# Altium integrated library Renesas Microcontroller R32C.IntLib: 205 symbols (part 1 of 22)
Pins are listed as number, name and electrical type; pins without a type are passive.

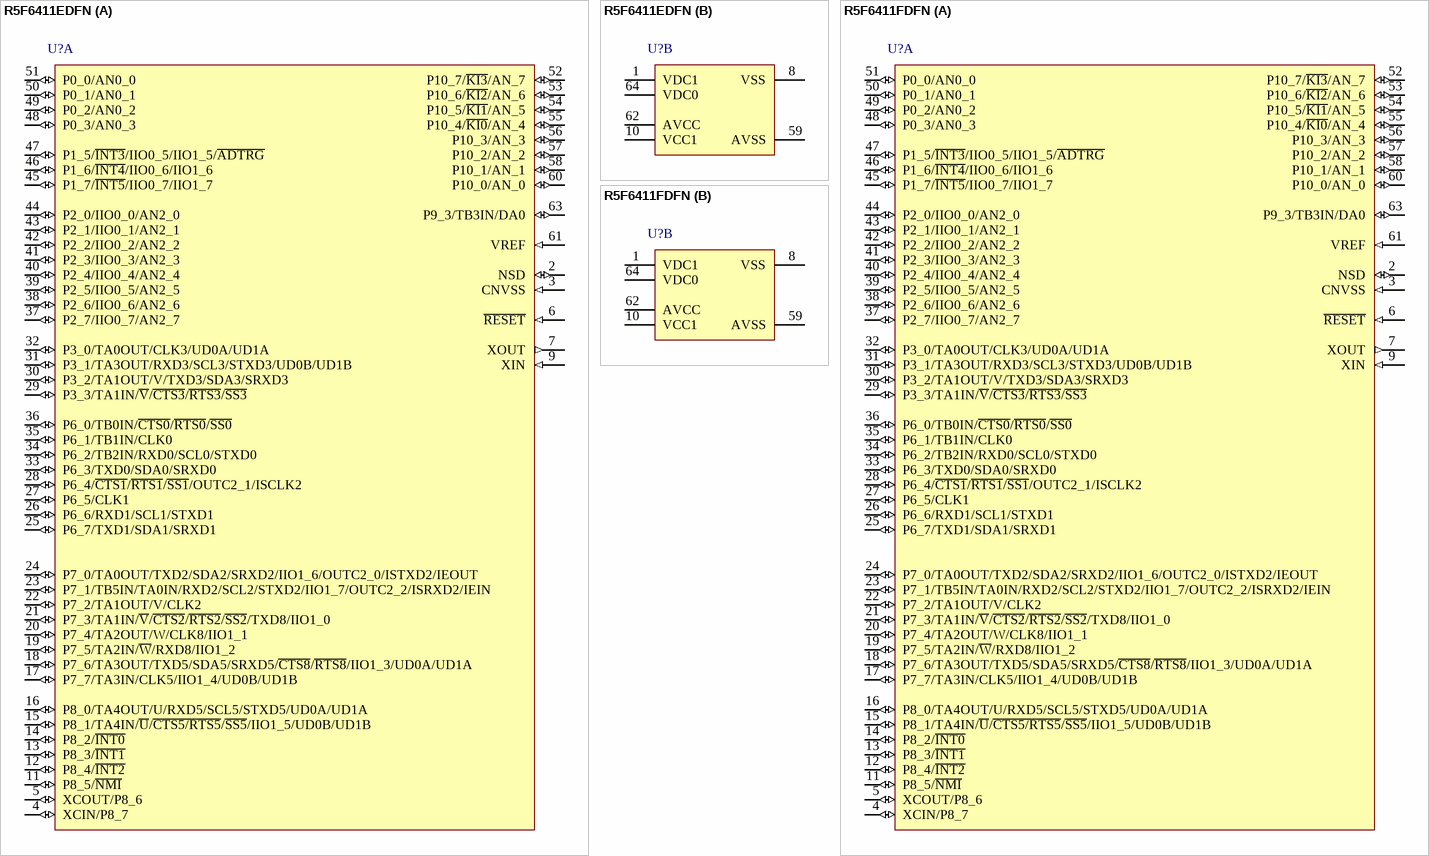
[diagram p0: symbols R5F6411EDFN to R5F6411FDFN]

## R5F6411EDFN
designator U?
Flash Memory R32C/100 Series, 111 Group MCU, 128K + 8K ROM, 32K RAM, 64-pin QFP, -40 to +85°C, Version D; Published: 26-Feb-2010; DatasheetVersion: Rev.1.10, Sep-2009; PackageVersion: Sep-2005; PackageReference: PLQP0064KB-A; Publisher: Altium Limited; PackageDescription: 64-Pin Plastic Low Profile QFP, 10 x 10 x 1.4 mm Body, 0.5 mm Pitch; Code_JEITA: P-LQFP64-10x10-0.50; Code_IPC: SQFP50P1200X1200-64; ComponentLink1Description: Manufacturer Link; ComponentLink1URL: http://sg.renesas.com/fmwk.jsp?cnt=m16c_family_landing.jsp&fp=/products/mpumcu/m16c_family/; ComponentLink2Description: Datasheet; ComponentLink2URL: http://documentation.renesas.com/eng/products/mpumcu/rej03b0227_r32c111ds.pdf; ComponentLink3Description: Packaging Specification; ComponentLink3URL: http://sg.renesas.com/media/products/common_info/package/pdf/ic/code/plqp0064kb_a.pdf
footprint PLQP0064KB-A_N (Shrink QFP, 64-Leads, Body 10x10mm, Pitch 0.5mm, IPC Medium Density)
footprint PLQP0064KB-A_L (Shrink QFP, 64-Leads, Body 10x10mm, Pitch 0.5mm, IPC High Density)
footprint PLQP0064KB-A_M (Shrink QFP, 64-Leads, Body 10x10mm, Pitch 0.5mm, IPC Low Density)
part A pins: 2 NSD (io), 3 CNVSS (in), 4 XCIN/P8_7 (io), 5 XCOUT/P8_6 (io), 6 ~{RESET} (in), 7 XOUT (out), 9 XIN (in), 11 P8_5/~{NMI} (io), 12 P8_4/~{INT2} (io), 13 P8_3/~{INT1} (io), 14 P8_2/~{INT0} (io), 15 P8_1/TA4IN/~{U}/~{CTS5/RTS5}/~{SS5}/IIO1_5/UD0B/UD1B (io), 16 P8_0/TA4OUT/U/RXD5/SCL5/STXD5/UD0A/UD1A (io), 17 P7_7/TA3IN/CLK5/IIO1_4/UD0B/UD1B (io), 18 P7_6/TA3OUT/TXD5/SDA5/SRXD5/~{CTS8}/~{RTS8}/IIO1_3/UD0A/UD1A (io), 19 P7_5/TA2IN/~{W}/RXD8/IIO1_2 (io), 20 P7_4/TA2OUT/W/CLK8/IIO1_1 (io), 21 P7_3/TA1IN/~{V}/~{CTS2}/~{RTS2}/~{SS2}/TXD8/IIO1_0 (io), 22 P7_2/TA1OUT/V/CLK2 (io), 23 P7_1/TB5IN/TA0IN/RXD2/SCL2/STXD2/IIO1_7/OUTC2_2/ISRXD2/IEIN (io), 24 P7_0/TA0OUT/TXD2/SDA2/SRXD2/IIO1_6/OUTC2_0/ISTXD2/IEOUT (io), 25 P6_7/TXD1/SDA1/SRXD1 (io), 26 P6_6/RXD1/SCL1/STXD1 (io), 27 P6_5/CLK1 (io), 28 P6_4/~{CTS1}/~{RTS1}/~{SS1}/OUTC2_1/ISCLK2 (io), 29 P3_3/TA1IN/~{V}/~{CTS3}/~{RTS3}/~{SS3} (io), 30 P3_2/TA1OUT/V/TXD3/SDA3/SRXD3 (io), 31 P3_1/TA3OUT/RXD3/SCL3/STXD3/UD0B/UD1B (io), 32 P3_0/TA0OUT/CLK3/UD0A/UD1A (io), 33 P6_3/TXD0/SDA0/SRXD0 (io), 34 P6_2/TB2IN/RXD0/SCL0/STXD0 (io), 35 P6_1/TB1IN/CLK0 (io), 36 P6_0/TB0IN/~{CTS0}/~{RTS0}/~{SS0} (io), 37 P2_7/IIO0_7/AN2_7 (io), 38 P2_6/IIO0_6/AN2_6 (io), 39 P2_5/IIO0_5/AN2_5 (io), 40 P2_4/IIO0_4/AN2_4 (io), 41 P2_3/IIO0_3/AN2_3 (io), 42 P2_2/IIO0_2/AN2_2 (io), 43 P2_1/IIO0_1/AN2_1 (io), 44 P2_0/IIO0_0/AN2_0 (io), 45 P1_7/~{INT5}/IIO0_7/IIO1_7 (io), 46 P1_6/~{INT4}/IIO0_6/IIO1_6 (io), 47 P1_5/~{INT3}/IIO0_5/IIO1_5/~{ADTRG} (io), 48 P0_3/AN0_3 (io), 49 P0_2/AN0_2 (io), 50 P0_1/AN0_1 (io), 51 P0_0/AN0_0 (io), 52 P10_7/~{KI3}/AN_7 (io), 53 P10_6/~{KI2}/AN_6 (io), 54 P10_5/~{KI1}/AN_5 (io), 55 P10_4/~{KI0}/AN_4 (io), 56 P10_3/AN_3 (io), 57 P10_2/AN_2 (io), 58 P10_1/AN_1 (io), 60 P10_0/AN_0 (io), 61 VREF (in), 63 P9_3/TB3IN/DA0 (io)
part B pins: 1 VDC1 (power), 8 VSS (power), 10 VCC1 (power), 59 AVSS (power), 62 AVCC (power), 64 VDC0 (power)

## R5F6411FDFN
designator U?
Flash Memory R32C/100 Series, 111 Group MCU, 256K + 8K ROM, 32K RAM, 64-pin QFP, -40 to +85°C, Version D; Published: 26-Feb-2010; DatasheetVersion: Rev.1.10, Sep-2009; PackageVersion: Sep-2005; PackageReference: PLQP0064KB-A; Publisher: Altium Limited; PackageDescription: 64-Pin Plastic Low Profile QFP, 10 x 10 x 1.4 mm Body, 0.5 mm Pitch; Code_JEITA: P-LQFP64-10x10-0.50; Code_IPC: SQFP50P1200X1200-64; ComponentLink1Description: Manufacturer Link; ComponentLink1URL: http://sg.renesas.com/fmwk.jsp?cnt=m16c_family_landing.jsp&fp=/products/mpumcu/m16c_family/; ComponentLink2Description: Datasheet; ComponentLink2URL: http://documentation.renesas.com/eng/products/mpumcu/rej03b0227_r32c111ds.pdf; ComponentLink3Description: Packaging Specification; ComponentLink3URL: http://sg.renesas.com/media/products/common_info/package/pdf/ic/code/plqp0064kb_a.pdf
footprint PLQP0064KB-A_N (Shrink QFP, 64-Leads, Body 10x10mm, Pitch 0.5mm, IPC Medium Density)
footprint PLQP0064KB-A_L (Shrink QFP, 64-Leads, Body 10x10mm, Pitch 0.5mm, IPC High Density)
footprint PLQP0064KB-A_M (Shrink QFP, 64-Leads, Body 10x10mm, Pitch 0.5mm, IPC Low Density)
part A pins: 2 NSD (io), 3 CNVSS (in), 4 XCIN/P8_7 (io), 5 XCOUT/P8_6 (io), 6 ~{RESET} (in), 7 XOUT (out), 9 XIN (in), 11 P8_5/~{NMI} (io), 12 P8_4/~{INT2} (io), 13 P8_3/~{INT1} (io), 14 P8_2/~{INT0} (io), 15 P8_1/TA4IN/~{U}/~{CTS5/RTS5}/~{SS5}/IIO1_5/UD0B/UD1B (io), 16 P8_0/TA4OUT/U/RXD5/SCL5/STXD5/UD0A/UD1A (io), 17 P7_7/TA3IN/CLK5/IIO1_4/UD0B/UD1B (io), 18 P7_6/TA3OUT/TXD5/SDA5/SRXD5/~{CTS8}/~{RTS8}/IIO1_3/UD0A/UD1A (io), 19 P7_5/TA2IN/~{W}/RXD8/IIO1_2 (io), 20 P7_4/TA2OUT/W/CLK8/IIO1_1 (io), 21 P7_3/TA1IN/~{V}/~{CTS2}/~{RTS2}/~{SS2}/TXD8/IIO1_0 (io), 22 P7_2/TA1OUT/V/CLK2 (io), 23 P7_1/TB5IN/TA0IN/RXD2/SCL2/STXD2/IIO1_7/OUTC2_2/ISRXD2/IEIN (io), 24 P7_0/TA0OUT/TXD2/SDA2/SRXD2/IIO1_6/OUTC2_0/ISTXD2/IEOUT (io), 25 P6_7/TXD1/SDA1/SRXD1 (io), 26 P6_6/RXD1/SCL1/STXD1 (io), 27 P6_5/CLK1 (io), 28 P6_4/~{CTS1}/~{RTS1}/~{SS1}/OUTC2_1/ISCLK2 (io), 29 P3_3/TA1IN/~{V}/~{CTS3}/~{RTS3}/~{SS3} (io), 30 P3_2/TA1OUT/V/TXD3/SDA3/SRXD3 (io), 31 P3_1/TA3OUT/RXD3/SCL3/STXD3/UD0B/UD1B (io), 32 P3_0/TA0OUT/CLK3/UD0A/UD1A (io), 33 P6_3/TXD0/SDA0/SRXD0 (io), 34 P6_2/TB2IN/RXD0/SCL0/STXD0 (io), 35 P6_1/TB1IN/CLK0 (io), 36 P6_0/TB0IN/~{CTS0}/~{RTS0}/~{SS0} (io), 37 P2_7/IIO0_7/AN2_7 (io), 38 P2_6/IIO0_6/AN2_6 (io), 39 P2_5/IIO0_5/AN2_5 (io), 40 P2_4/IIO0_4/AN2_4 (io), 41 P2_3/IIO0_3/AN2_3 (io), 42 P2_2/IIO0_2/AN2_2 (io), 43 P2_1/IIO0_1/AN2_1 (io), 44 P2_0/IIO0_0/AN2_0 (io), 45 P1_7/~{INT5}/IIO0_7/IIO1_7 (io), 46 P1_6/~{INT4}/IIO0_6/IIO1_6 (io), 47 P1_5/~{INT3}/IIO0_5/IIO1_5/~{ADTRG} (io), 48 P0_3/AN0_3 (io), 49 P0_2/AN0_2 (io), 50 P0_1/AN0_1 (io), 51 P0_0/AN0_0 (io), 52 P10_7/~{KI3}/AN_7 (io), 53 P10_6/~{KI2}/AN_6 (io), 54 P10_5/~{KI1}/AN_5 (io), 55 P10_4/~{KI0}/AN_4 (io), 56 P10_3/AN_3 (io), 57 P10_2/AN_2 (io), 58 P10_1/AN_1 (io), 60 P10_0/AN_0 (io), 61 VREF (in), 63 P9_3/TB3IN/DA0 (io)
part B pins: 1 VDC1 (power), 8 VSS (power), 10 VCC1 (power), 59 AVSS (power), 62 AVCC (power), 64 VDC0 (power)

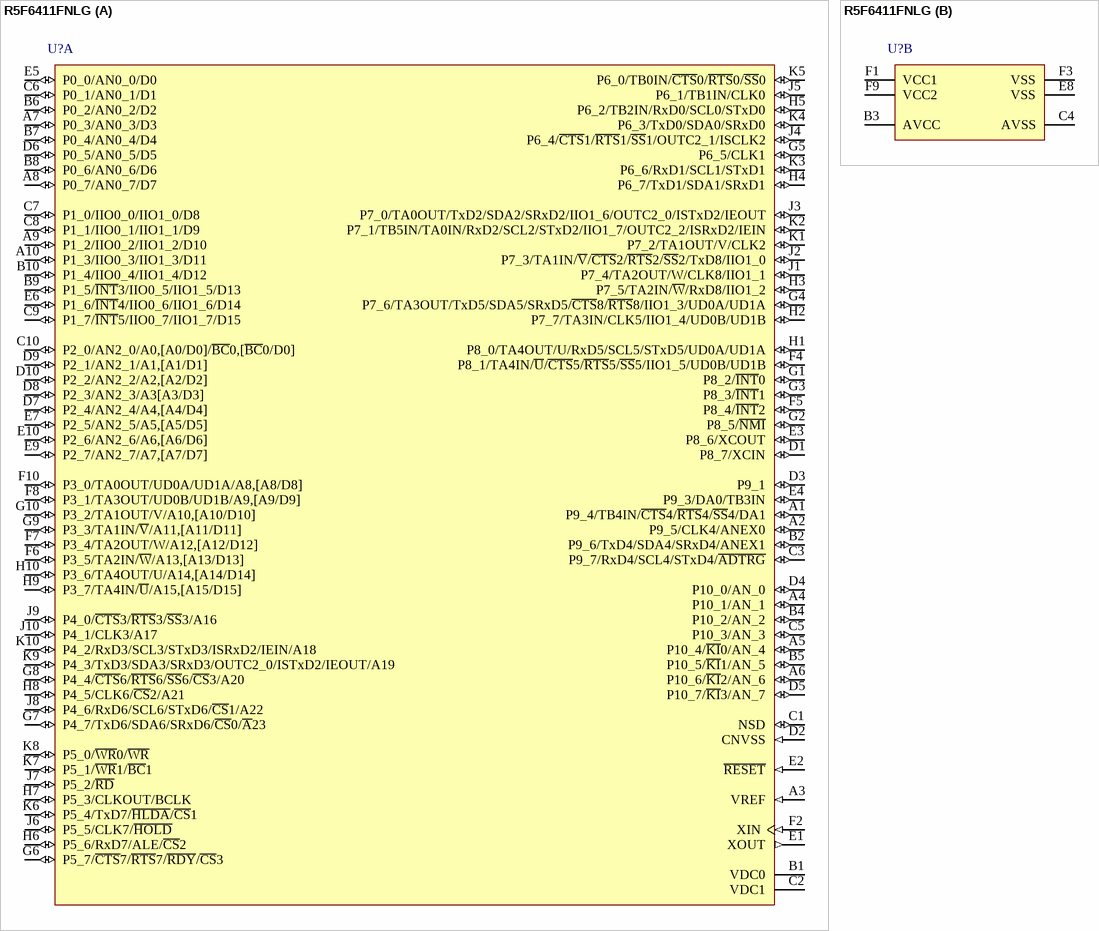
[diagram p1: symbol R5F6411FNLG]

## R5F6411FNLG
designator U?
Flash Memory R32C/100 Series, 111 Group MCU, 256K + 8K ROM, 63K RAM, 100-ball TFLGA, -20 to +85°C, Version N; Published: 26-Feb-2010; DatasheetVersion: Rev.1.10, Sep-2009; PackageVersion: 2009; PackageReference: PTLG0100KA-A; Publisher: Altium Limited; PackageDescription: 100-Ball Plastic Thin Fine-Pitch LGA, 5.5 x 5.5 mm Body 0.5 mm Pitch; Code_JEITA: P-TFLGA100-5.5x5.5-0.5; ComponentLink1Description: Manufacturer Link; ComponentLink1URL: http://sg.renesas.com/fmwk.jsp?cnt=m16c_family_landing.jsp&fp=/products/mpumcu/m16c_family/; ComponentLink2Description: Datasheet; ComponentLink2URL: http://documentation.renesas.com/eng/products/mpumcu/rej03b0227_r32c111ds.pdf; ComponentLink3Description: Packaging Specification; ComponentLink3URL: http://sg.renesas.com/media/products/common_info/package/pdf/ic/code/ptlg0100ka_a.pdf
footprint PTLG0100KA-A (BGA, 100-Leads, Body 5.5x5.5mm, Pitch 0.5mm)
part A pins: A1 P9_4/TB4IN/~{CTS}4/~{RTS}4/~{SS}4/DA1 (io), A2 P9_5/CLK4/ANEX0 (io), A3 VREF (in), A4 P10_1/AN_1 (io), A5 P10_4/~{KI}0/AN_4 (io), A6 P10_6/~{KI}2/AN_6 (io), A7 P0_3/AN0_3/D3 (io), A8 P0_7/AN0_7/D7 (io), A9 P1_2/IIO0_2/IIO1_2/D10 (io), A10 P1_3/IIO0_3/IIO1_3/D11 (io), B1 VDC0, B2 P9_6/TxD4/SDA4/SRxD4/ANEX1 (io), B4 P10_2/AN_2 (io), B5 P10_5/~{KI}1/AN_5 (io), B6 P0_2/AN0_2/D2 (io), B7 P0_4/AN0_4/D4 (io), B8 P0_6/AN0_6/D6 (io), B9 P1_5/~{INT}3/IIO0_5/IIO1_5/D13 (io), B10 P1_4/IIO0_4/IIO1_4/D12 (io), C1 NSD (io), C2 VDC1, C3 P9_7/RxD4/SCL4/STxD4/~{ADTRG} (io), C5 P10_3/AN_3 (io), C6 P0_1/AN0_1/D1 (io), C7 P1_0/IIO0_0/IIO1_0/D8 (io), C8 P1_1/IIO0_1/IIO1_1/D9 (io), C9 P1_7/~{INT}5/IIO0_7/IIO1_7/D15 (io), C10 P2_0/AN2_0/A0,[A0/D0]/~{BC}0,[~{BC}0/D0] (io), D1 P8_7/XCIN (io), D2 CNVSS (in), D3 P9_1 (io), D4 P10_0/AN_0 (io), D5 P10_7/~{KI}3/AN_7 (io), D6 P0_5/AN0_5/D5 (io), D7 P2_4/AN2_4/A4,[A4/D4] (io), D8 P2_3/AN2_3/A3[A3/D3] (io), D9 P2_1/AN2_1/A1,[A1/D1] (io), D10 P2_2/AN2_2/A2,[A2/D2] (io), E1 XOUT (out), E2 ~{RESET} (in), E3 P8_6/XCOUT (io), E4 P9_3/DA0/TB3IN (io), E5 P0_0/AN0_0/D0 (io), E6 P1_6/~{INT}4/IIO0_6/IIO1_6/D14 (io), E7 P2_5/AN2_5/A5,[A5/D5] (io), E9 P2_7/AN2_7/A7,[A7/D7] (io), E10 P2_6/AN2_6/A6,[A6/D6] (io), F2 XIN (in), F4 P8_1/TA4IN/~{U}/~{CTS}5/~{RTS}5/~{SS}5/IIO1_5/UD0B/UD1B (io), F5 P8_4/~{INT}2 (io), F6 P3_5/TA2IN/~{W}/A13,[A13/D13] (io), F7 P3_4/TA2OUT/W/A12,[A12/D12] (io), F8 P3_1/TA3OUT/UD0B/UD1B/A9,[A9/D9] (io), F10 P3_0/TA0OUT/UD0A/UD1A/A8,[A8/D8] (io), G1 P8_2/~{INT}0 (io), G2 P8_5/~{NMI} (io), G3 P8_3/~{INT}1 (io), G4 P7_6/TA3OUT/TxD5/SDA5/SRxD5/~{CTS}8/~{RTS}8/IIO1_3/UD0A/UD1A (io), G5 P6_5/CLK1 (io), G6 P5_7/~{CTS}7/~{RTS}7/~{RDY}/~{CS}3 (io), G7 P4_7/TxD6/SDA6/SRxD6/~{CS}0/~{A}23 (io), G8 P4_4/~{CTS}6/~{RTS}6/~{SS}6/~{CS}3/A20 (io), G9 P3_3/TA1IN/~{V}/A11,[A11/D11] (io), G10 P3_2/TA1OUT/V/A10,[A10/D10] (io), H1 P8_0/TA4OUT/U/RxD5/SCL5/STxD5/UD0A/UD1A (io), H2 P7_7/TA3IN/CLK5/IIO1_4/UD0B/UD1B (io), H3 P7_5/TA2IN/~{W}/RxD8/IIO1_2 (io), H4 P6_7/TxD1/SDA1/SRxD1 (io), H5 P6_2/TB2IN/RxD0/SCL0/STxD0 (io), H6 P5_6/RxD7/ALE/~{CS}2 (io), H7 P5_3/CLKOUT/BCLK (io), H8 P4_5/CLK6/~{CS}2/A21 (io), H9 P3_7/TA4IN/~{U}/A15,[A15/D15] (io), H10 P3_6/TA4OUT/U/A14,[A14/D14] (io), J1 P7_4/TA2OUT/W/CLK8/IIO1_1 (io), J2 P7_3/TA1IN/~{V}/~{CTS}2/~{RTS}2/~{SS}2/TxD8/IIO1_0 (io), J3 P7_0/TA0OUT/TxD2/SDA2/SRxD2/IIO1_6/OUTC2_0/ISTxD2/IEOUT (io), J4 P6_4/~{CTS}1/~{RTS}1/~{SS}1/OUTC2_1/ISCLK2 (io), J5 P6_1/TB1IN/CLK0 (io), J6 P5_5/CLK7/~{HOLD} (io), J7 P5_2/~{RD} (io), J8 P4_6/RxD6/SCL6/STxD6/~{CS}1/A22 (io), J9 P4_0/~{CTS}3/~{RTS}3/~{SS}3/A16 (io), J10 P4_1/CLK3/A17 (io), K1 P7_2/TA1OUT/V/CLK2 (io), K2 P7_1/TB5IN/TA0IN/RxD2/SCL2/STxD2/IIO1_7/OUTC2_2/ISRxD2/IEIN (io), K3 P6_6/RxD1/SCL1/STxD1 (io), K4 P6_3/TxD0/SDA0/SRxD0 (io), K5 P6_0/TB0IN/~{CTS}0/~{RTS}0/~{SS}0 (io), K6 P5_4/TxD7/~{HLDA}/~{CS}1 (io), K7 P5_1/~{WR}1/~{BC}1 (io), K8 P5_0/~{WR}0/~{WR} (io), K9 P4_3/TxD3/SDA3/SRxD3/OUTC2_0/ISTxD2/IEOUT/A19 (io), K10 P4_2/RxD3/SCL3/STxD3/ISRxD2/IEIN/A18 (io)
part B pins: B3 AVCC (power), C4 AVSS (power), E8 VSS (power), F1 VCC1 (power), F3 VSS (power), F9 VCC2 (power)

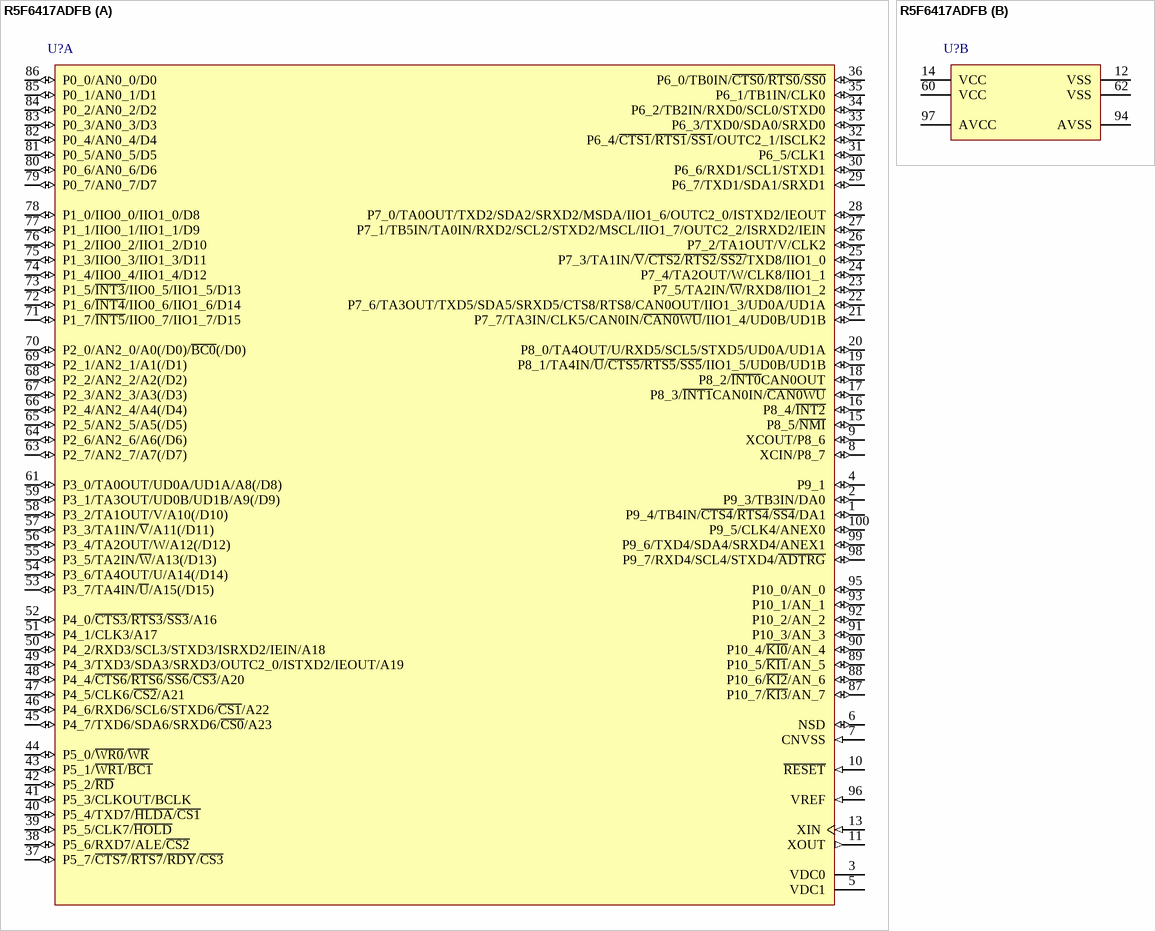
[diagram p2: symbol R5F6417ADFB]

## R5F6417ADFB
designator U?
Flash Memory R32C/100 Series, 117 Group MCU, 256K + 8K ROM, 20K RAM, 100-pin LQFP, -40 to +85°C, Version D; Published: 26-Feb-2010; DatasheetVersion: Rev.1.00, Nov-2009; PackageVersion: Sep-2005; PackageReference: PLQP0100KB-A; Publisher: Altium Limited; PackageDescription: 100-Pin Plastic Low Profile QFP, 14 x 14 x 1.4 mm Body, 0.5 mm Pitch; Code_JEITA: P-LQFP100-14x14-0.50; Code_IPC: SQFP50P1600X1600-100; ComponentLink1Description: Manufacturer Link; ComponentLink1URL: http://sg.renesas.com/fmwk.jsp?cnt=m16c_family_landing.jsp&fp=/products/mpumcu/m16c_family/; ComponentLink2Description: Datasheet; ComponentLink2URL: http://documentation.renesas.com/eng/products/mpumcu/rej03b0254_r32c117ds.pdf; ComponentLink3Description: Packaging Specification; ComponentLink3URL: http://sg.renesas.com/media/products/common_info/package/pdf/ic/code/plqp0100kb_a.pdf
footprint PLQP0100KB-A_N (Shrink QFP, 100-Leads, Body 14x14mm, Pitch 0.5mm, IPC Medium Density)
footprint PLQP0100KB-A_L (Shrink QFP, 100-Leads, Body 14x14mm, Pitch 0.5mm, IPC High Density)
footprint PLQP0100KB-A_M (Shrink QFP, 100-Leads, Body 14x14mm, Pitch 0.5mm, IPC Low Density)
part A pins: 1 P9_4/TB4IN/~{CTS4}/~{RTS4}/~{SS4}/DA1 (io), 2 P9_3/TB3IN/DA0 (io), 3 VDC0, 4 P9_1 (io), 5 VDC1, 6 NSD (io), 7 CNVSS (in), 8 XCIN/P8_7 (io), 9 XCOUT/P8_6 (io), 10 ~{RESET} (in), 11 XOUT (out), 13 XIN (in), 15 P8_5/~{NMI} (io), 16 P8_4/~{INT2} (io), 17 P8_3/~{INT1}CAN0IN/~{CAN0WU} (io), 18 P8_2/~{INT0}CAN0OUT (io), 19 P8_1/TA4IN/~{U}/~{CTS5/RTS5}/~{SS5}/IIO1_5/UD0B/UD1B (io), 20 P8_0/TA4OUT/U/RXD5/SCL5/STXD5/UD0A/UD1A (io), 21 P7_7/TA3IN/CLK5/CAN0IN/~{CAN0WU}/IIO1_4/UD0B/UD1B (io), 22 P7_6/TA3OUT/TXD5/SDA5/SRXD5/CTS8/RTS8/CAN0OUT/IIO1_3/UD0A/UD1A (io), 23 P7_5/TA2IN/~{W}/RXD8/IIO1_2 (io), 24 P7_4/TA2OUT/W/CLK8/IIO1_1 (io), 25 P7_3/TA1IN/~{V}/~{CTS2}/~{RTS2}/~{SS2/}TXD8/IIO1_0 (io), 26 P7_2/TA1OUT/V/CLK2 (io), 27 P7_1/TB5IN/TA0IN/RXD2/SCL2/STXD2/MSCL/IIO1_7/OUTC2_2/ISRXD2/IEIN (io), 28 P7_0/TA0OUT/TXD2/SDA2/SRXD2/MSDA/IIO1_6/OUTC2_0/ISTXD2/IEOUT (io), 29 P6_7/TXD1/SDA1/SRXD1 (io), 30 P6_6/RXD1/SCL1/STXD1 (io), 31 P6_5/CLK1 (io), 32 P6_4/~{CTS1}/~{RTS1}/~{SS1}/OUTC2_1/ISCLK2 (io), 33 P6_3/TXD0/SDA0/SRXD0 (io), 34 P6_2/TB2IN/RXD0/SCL0/STXD0 (io), 35 P6_1/TB1IN/CLK0 (io), 36 P6_0/TB0IN/~{CTS0}/~{RTS0}/~{SS0} (io), 37 P5_7/~{CTS7}/~{RTS7}/~{RDY}/~{CS3} (io), 38 P5_6/RXD7/ALE/~{CS2} (io), 39 P5_5/CLK7/~{HOLD} (io), 40 P5_4/TXD7/~{HLDA}/~{CS1} (io), 41 P5_3/CLKOUT/BCLK (io), 42 P5_2/~{RD} (io), 43 P5_1/~{WR1}/~{BC1} (io), 44 P5_0/~{WR0}/~{WR} (io), 45 P4_7/TXD6/SDA6/SRXD6/~{CS0}/A23 (io), 46 P4_6/RXD6/SCL6/STXD6/~{CS1}/A22 (io), 47 P4_5/CLK6/~{CS2}/A21 (io), 48 P4_4/~{CTS6}/~{RTS6}/~{SS6}/~{CS3}/A20 (io), 49 P4_3/TXD3/SDA3/SRXD3/OUTC2_0/ISTXD2/IEOUT/A19 (io), 50 P4_2/RXD3/SCL3/STXD3/ISRXD2/IEIN/A18 (io), 51 P4_1/CLK3/A17 (io), 52 P4_0/~{CTS3}/~{RTS3}/~{SS3}/A16 (io), 53 P3_7/TA4IN/~{U}/A15(/D15) (io), 54 P3_6/TA4OUT/U/A14(/D14) (io), 55 P3_5/TA2IN/~{W}/A13(/D13) (io), 56 P3_4/TA2OUT/W/A12(/D12) (io), 57 P3_3/TA1IN/~{V}/A11(/D11) (io), 58 P3_2/TA1OUT/V/A10(/D10) (io), 59 P3_1/TA3OUT/UD0B/UD1B/A9(/D9) (io), 61 P3_0/TA0OUT/UD0A/UD1A/A8(/D8) (io), 63 P2_7/AN2_7/A7(/D7) (io), 64 P2_6/AN2_6/A6(/D6) (io), 65 P2_5/AN2_5/A5(/D5) (io), 66 P2_4/AN2_4/A4(/D4) (io), 67 P2_3/AN2_3/A3(/D3) (io), 68 P2_2/AN2_2/A2(/D2) (io), 69 P2_1/AN2_1/A1(/D1) (io), 70 P2_0/AN2_0/A0(/D0)/~{BC0}(/D0) (io), 71 P1_7/~{INT5}/IIO0_7/IIO1_7/D15 (io), 72 P1_6/~{INT4}/IIO0_6/IIO1_6/D14 (io), 73 P1_5/~{INT3}/IIO0_5/IIO1_5/D13 (io), 74 P1_4/IIO0_4/IIO1_4/D12 (io), 75 P1_3/IIO0_3/IIO1_3/D11 (io), 76 P1_2/IIO0_2/IIO1_2/D10 (io), 77 P1_1/IIO0_1/IIO1_1/D9 (io), 78 P1_0/IIO0_0/IIO1_0/D8 (io), 79 P0_7/AN0_7/D7 (io), 80 P0_6/AN0_6/D6 (io), 81 P0_5/AN0_5/D5 (io), 82 P0_4/AN0_4/D4 (io), 83 P0_3/AN0_3/D3 (io), 84 P0_2/AN0_2/D2 (io), 85 P0_1/AN0_1/D1 (io), 86 P0_0/AN0_0/D0 (io), 87 P10_7/~{KI3}/AN_7 (io), 88 P10_6/~{KI2}/AN_6 (io), 89 P10_5/~{KI1}/AN_5 (io), 90 P10_4/~{KI0}/AN_4 (io), 91 P10_3/AN_3 (io), 92 P10_2/AN_2 (io), 93 P10_1/AN_1 (io), 95 P10_0/AN_0 (io), 96 VREF (in), 98 P9_7/RXD4/SCL4/STXD4/~{ADTRG} (io), 99 P9_6/TXD4/SDA4/SRXD4/ANEX1 (io), 100 P9_5/CLK4/ANEX0 (io)
part B pins: 12 VSS (power), 14 VCC (power), 60 VCC (power), 62 VSS (power), 94 AVSS (power), 97 AVCC (power)

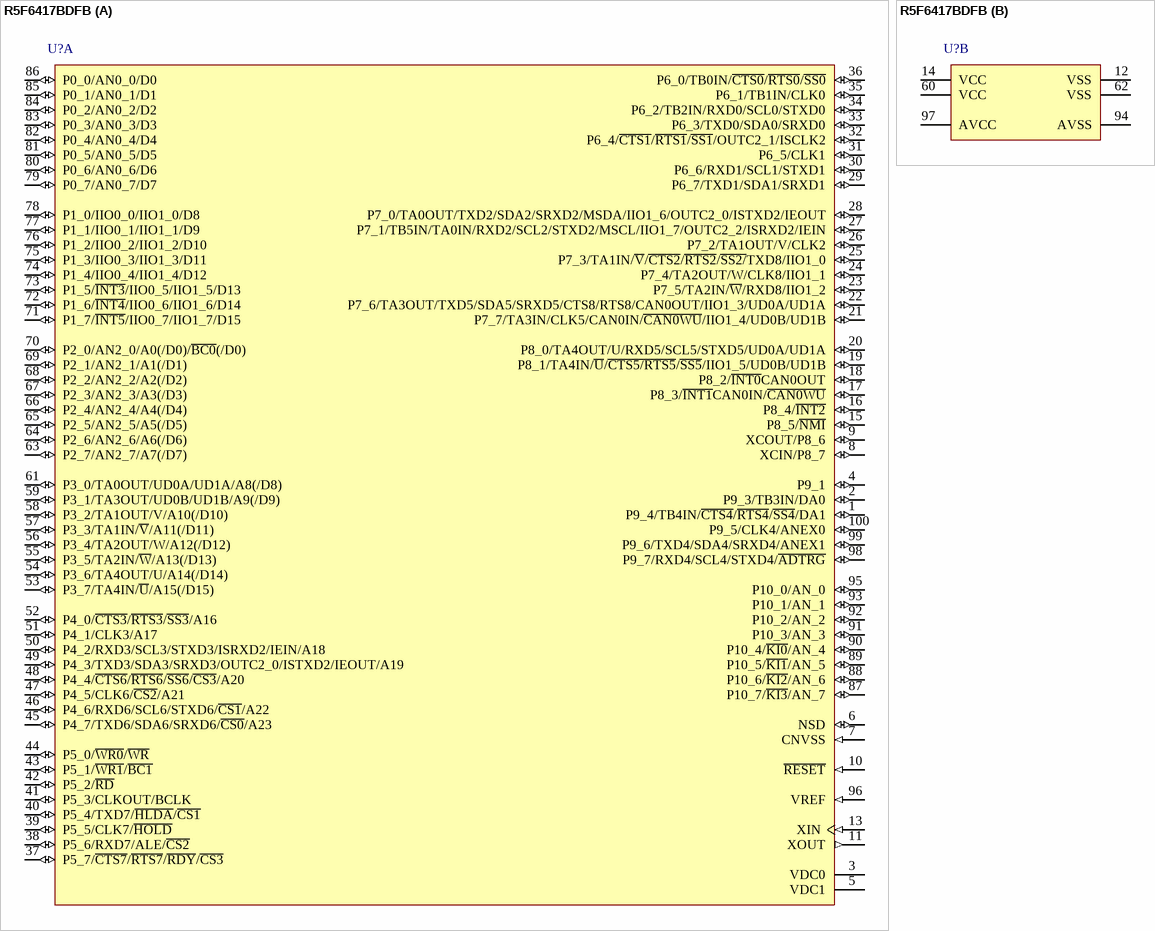
[diagram p3: symbol R5F6417BDFB]

## R5F6417BDFB
designator U?
Flash Memory R32C/100 Series, 117 Group MCU, 128K + 8K ROM, 20K RAM, 100-pin LQFP, -40 to +85°C, Version D; Published: 26-Feb-2010; DatasheetVersion: Rev.1.00, Nov-2009; PackageVersion: Sep-2005; PackageReference: PLQP0100KB-A; Publisher: Altium Limited; PackageDescription: 100-Pin Plastic Low Profile QFP, 14 x 14 x 1.4 mm Body, 0.5 mm Pitch; Code_JEITA: P-LQFP100-14x14-0.50; Code_IPC: SQFP50P1600X1600-100; ComponentLink1Description: Manufacturer Link; ComponentLink1URL: http://sg.renesas.com/fmwk.jsp?cnt=m16c_family_landing.jsp&fp=/products/mpumcu/m16c_family/; ComponentLink2Description: Datasheet; ComponentLink2URL: http://documentation.renesas.com/eng/products/mpumcu/rej03b0254_r32c117ds.pdf; ComponentLink3Description: Packaging Specification; ComponentLink3URL: http://sg.renesas.com/media/products/common_info/package/pdf/ic/code/plqp0100kb_a.pdf
footprint PLQP0100KB-A_N (Shrink QFP, 100-Leads, Body 14x14mm, Pitch 0.5mm, IPC Medium Density)
footprint PLQP0100KB-A_L (Shrink QFP, 100-Leads, Body 14x14mm, Pitch 0.5mm, IPC High Density)
footprint PLQP0100KB-A_M (Shrink QFP, 100-Leads, Body 14x14mm, Pitch 0.5mm, IPC Low Density)
part A pins: 1 P9_4/TB4IN/~{CTS4}/~{RTS4}/~{SS4}/DA1 (io), 2 P9_3/TB3IN/DA0 (io), 3 VDC0, 4 P9_1 (io), 5 VDC1, 6 NSD (io), 7 CNVSS (in), 8 XCIN/P8_7 (io), 9 XCOUT/P8_6 (io), 10 ~{RESET} (in), 11 XOUT (out), 13 XIN (in), 15 P8_5/~{NMI} (io), 16 P8_4/~{INT2} (io), 17 P8_3/~{INT1}CAN0IN/~{CAN0WU} (io), 18 P8_2/~{INT0}CAN0OUT (io), 19 P8_1/TA4IN/~{U}/~{CTS5/RTS5}/~{SS5}/IIO1_5/UD0B/UD1B (io), 20 P8_0/TA4OUT/U/RXD5/SCL5/STXD5/UD0A/UD1A (io), 21 P7_7/TA3IN/CLK5/CAN0IN/~{CAN0WU}/IIO1_4/UD0B/UD1B (io), 22 P7_6/TA3OUT/TXD5/SDA5/SRXD5/CTS8/RTS8/CAN0OUT/IIO1_3/UD0A/UD1A (io), 23 P7_5/TA2IN/~{W}/RXD8/IIO1_2 (io), 24 P7_4/TA2OUT/W/CLK8/IIO1_1 (io), 25 P7_3/TA1IN/~{V}/~{CTS2}/~{RTS2}/~{SS2/}TXD8/IIO1_0 (io), 26 P7_2/TA1OUT/V/CLK2 (io), 27 P7_1/TB5IN/TA0IN/RXD2/SCL2/STXD2/MSCL/IIO1_7/OUTC2_2/ISRXD2/IEIN (io), 28 P7_0/TA0OUT/TXD2/SDA2/SRXD2/MSDA/IIO1_6/OUTC2_0/ISTXD2/IEOUT (io), 29 P6_7/TXD1/SDA1/SRXD1 (io), 30 P6_6/RXD1/SCL1/STXD1 (io), 31 P6_5/CLK1 (io), 32 P6_4/~{CTS1}/~{RTS1}/~{SS1}/OUTC2_1/ISCLK2 (io), 33 P6_3/TXD0/SDA0/SRXD0 (io), 34 P6_2/TB2IN/RXD0/SCL0/STXD0 (io), 35 P6_1/TB1IN/CLK0 (io), 36 P6_0/TB0IN/~{CTS0}/~{RTS0}/~{SS0} (io), 37 P5_7/~{CTS7}/~{RTS7}/~{RDY}/~{CS3} (io), 38 P5_6/RXD7/ALE/~{CS2} (io), 39 P5_5/CLK7/~{HOLD} (io), 40 P5_4/TXD7/~{HLDA}/~{CS1} (io), 41 P5_3/CLKOUT/BCLK (io), 42 P5_2/~{RD} (io), 43 P5_1/~{WR1}/~{BC1} (io), 44 P5_0/~{WR0}/~{WR} (io), 45 P4_7/TXD6/SDA6/SRXD6/~{CS0}/A23 (io), 46 P4_6/RXD6/SCL6/STXD6/~{CS1}/A22 (io), 47 P4_5/CLK6/~{CS2}/A21 (io), 48 P4_4/~{CTS6}/~{RTS6}/~{SS6}/~{CS3}/A20 (io), 49 P4_3/TXD3/SDA3/SRXD3/OUTC2_0/ISTXD2/IEOUT/A19 (io), 50 P4_2/RXD3/SCL3/STXD3/ISRXD2/IEIN/A18 (io), 51 P4_1/CLK3/A17 (io), 52 P4_0/~{CTS3}/~{RTS3}/~{SS3}/A16 (io), 53 P3_7/TA4IN/~{U}/A15(/D15) (io), 54 P3_6/TA4OUT/U/A14(/D14) (io), 55 P3_5/TA2IN/~{W}/A13(/D13) (io), 56 P3_4/TA2OUT/W/A12(/D12) (io), 57 P3_3/TA1IN/~{V}/A11(/D11) (io), 58 P3_2/TA1OUT/V/A10(/D10) (io), 59 P3_1/TA3OUT/UD0B/UD1B/A9(/D9) (io), 61 P3_0/TA0OUT/UD0A/UD1A/A8(/D8) (io), 63 P2_7/AN2_7/A7(/D7) (io), 64 P2_6/AN2_6/A6(/D6) (io), 65 P2_5/AN2_5/A5(/D5) (io), 66 P2_4/AN2_4/A4(/D4) (io), 67 P2_3/AN2_3/A3(/D3) (io), 68 P2_2/AN2_2/A2(/D2) (io), 69 P2_1/AN2_1/A1(/D1) (io), 70 P2_0/AN2_0/A0(/D0)/~{BC0}(/D0) (io), 71 P1_7/~{INT5}/IIO0_7/IIO1_7/D15 (io), 72 P1_6/~{INT4}/IIO0_6/IIO1_6/D14 (io), 73 P1_5/~{INT3}/IIO0_5/IIO1_5/D13 (io), 74 P1_4/IIO0_4/IIO1_4/D12 (io), 75 P1_3/IIO0_3/IIO1_3/D11 (io), 76 P1_2/IIO0_2/IIO1_2/D10 (io), 77 P1_1/IIO0_1/IIO1_1/D9 (io), 78 P1_0/IIO0_0/IIO1_0/D8 (io), 79 P0_7/AN0_7/D7 (io), 80 P0_6/AN0_6/D6 (io), 81 P0_5/AN0_5/D5 (io), 82 P0_4/AN0_4/D4 (io), 83 P0_3/AN0_3/D3 (io), 84 P0_2/AN0_2/D2 (io), 85 P0_1/AN0_1/D1 (io), 86 P0_0/AN0_0/D0 (io), 87 P10_7/~{KI3}/AN_7 (io), 88 P10_6/~{KI2}/AN_6 (io), 89 P10_5/~{KI1}/AN_5 (io), 90 P10_4/~{KI0}/AN_4 (io), 91 P10_3/AN_3 (io), 92 P10_2/AN_2 (io), 93 P10_1/AN_1 (io), 95 P10_0/AN_0 (io), 96 VREF (in), 98 P9_7/RXD4/SCL4/STXD4/~{ADTRG} (io), 99 P9_6/TXD4/SDA4/SRXD4/ANEX1 (io), 100 P9_5/CLK4/ANEX0 (io)
part B pins: 12 VSS (power), 14 VCC (power), 60 VCC (power), 62 VSS (power), 94 AVSS (power), 97 AVCC (power)

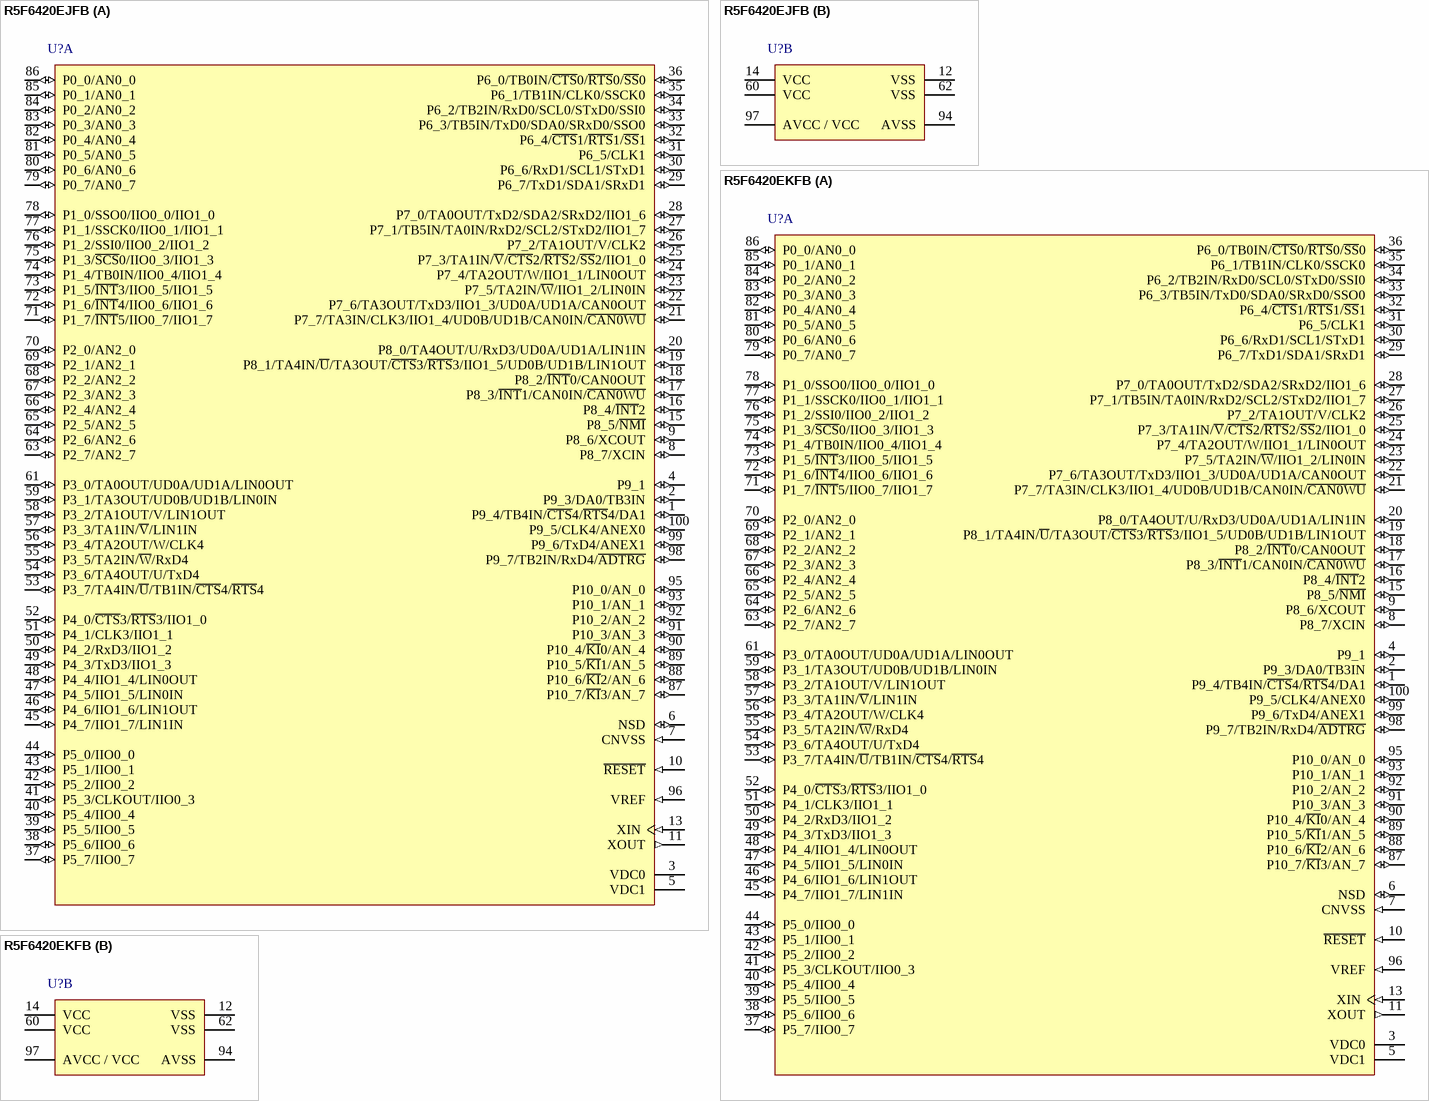
[diagram p4: symbols R5F6420EJFB to R5F6420EKFB]

## R5F6420EJFB
designator U?
Flash Memory R32C/100 Series, 120 Group MCU, 128K + 8K ROM, 12K RAM, 100-pin LQFP, Version J; Published: 28-Aug-2009; DatasheetVersion: Rev.0.50, Jul-2008; PackageVersion: Sep-2005; PackageReference: PLQP0100KB-A; Publisher: Altium Limited; PackageDescription: 100-Pin Plastic Low Profile QFP, 14 x 14 x 1.4 mm Body, 0.5 mm Pitch; Code_JEITA: P-LQFP100-14x14-0.50; Code_IPC: SQFP50P1600X1600-100; ComponentLink1Description: Manufacturer Link; ComponentLink1URL: http://sg.renesas.com/fmwk.jsp?cnt=m16c_family_landing.jsp&fp=/products/mpumcu/m16c_family/; ComponentLink2Description: Datasheet; ComponentLink2URL: http://documentation.renesas.com/eng/products/mpumcu/rej09b0476_r32c120hm.pdf; ComponentLink3Description: Packaging Specification; ComponentLink3URL: http://sg.renesas.com/media/products/common_info/package/pdf/ic/code/plqp0100kb_a.pdf
footprint PLQP0100KB-A_N (Shrink QFP, 100-Leads, Body 14x14mm, Pitch 0.5mm, IPC Medium Density)
footprint PLQP0100KB-A_L (Shrink QFP, 100-Leads, Body 14x14mm, Pitch 0.5mm, IPC High Density)
footprint PLQP0100KB-A_M (Shrink QFP, 100-Leads, Body 14x14mm, Pitch 0.5mm, IPC Low Density)
part A pins: 1 P9_4/TB4IN/~{CTS}4/~{RTS}4/DA1 (io), 2 P9_3/DA0/TB3IN (io), 3 VDC0, 4 P9_1 (io), 5 VDC1, 6 NSD (io), 7 CNVSS (in), 8 P8_7/XCIN (io), 9 P8_6/XCOUT (io), 10 ~{RESET} (in), 11 XOUT (out), 13 XIN (in), 15 P8_5/~{NMI} (io), 16 P8_4/~{INT}2 (io), 17 P8_3/~{INT}1/CAN0IN/~{CAN0WU} (io), 18 P8_2/~{INT}0/CAN0OUT (io), 19 P8_1/TA4IN/~{U}/TA3OUT/~{CTS}3/~{RTS}3/IIO1_5/UD0B/UD1B/LIN1OUT (io), 20 P8_0/TA4OUT/U/RxD3/UD0A/UD1A/LIN1IN (io), 21 P7_7/TA3IN/CLK3/IIO1_4/UD0B/UD1B/CAN0IN/~{CAN0WU} (io), 22 P7_6/TA3OUT/TxD3/IIO1_3/UD0A/UD1A/CAN0OUT (io), 23 P7_5/TA2IN/~{W}/IIO1_2/LIN0IN (io), 24 P7_4/TA2OUT/W/IIO1_1/LIN0OUT (io), 25 P7_3/TA1IN/~{V}/~{CTS}2/~{RTS}2/~{SS}2/IIO1_0 (io), 26 P7_2/TA1OUT/V/CLK2 (io), 27 P7_1/TB5IN/TA0IN/RxD2/SCL2/STxD2/IIO1_7 (io), 28 P7_0/TA0OUT/TxD2/SDA2/SRxD2/IIO1_6 (io), 29 P6_7/TxD1/SDA1/SRxD1 (io), 30 P6_6/RxD1/SCL1/STxD1 (io), 31 P6_5/CLK1 (io), 32 P6_4/~{CTS}1/~{RTS}1/~{SS}1 (io), 33 P6_3/TB5IN/TxD0/SDA0/SRxD0/SSO0 (io), 34 P6_2/TB2IN/RxD0/SCL0/STxD0/SSI0 (io), 35 P6_1/TB1IN/CLK0/SSCK0 (io), 36 P6_0/TB0IN/~{CTS}0/~{RTS}0/~{SS}0 (io), 37 P5_7/IIO0_7 (io), 38 P5_6/IIO0_6 (io), 39 P5_5/IIO0_5 (io), 40 P5_4/IIO0_4 (io), 41 P5_3/CLKOUT/IIO0_3 (io), 42 P5_2/IIO0_2 (io), 43 P5_1/IIO0_1 (io), 44 P5_0/IIO0_0 (io), 45 P4_7/IIO1_7/LIN1IN (io), 46 P4_6/IIO1_6/LIN1OUT (io), 47 P4_5/IIO1_5/LIN0IN (io), 48 P4_4/IIO1_4/LIN0OUT (io), 49 P4_3/TxD3/IIO1_3 (io), 50 P4_2/RxD3/IIO1_2 (io), 51 P4_1/CLK3/IIO1_1 (io), 52 P4_0/~{CTS}3/~{RTS}3/IIO1_0 (io), 53 P3_7/TA4IN/~{U}/TB1IN/~{CTS}4/~{RTS}4 (io), 54 P3_6/TA4OUT/U/TxD4 (io), 55 P3_5/TA2IN/~{W}/RxD4 (io), 56 P3_4/TA2OUT/W/CLK4 (io), 57 P3_3/TA1IN/~{V}/LIN1IN (io), 58 P3_2/TA1OUT/V/LIN1OUT (io), 59 P3_1/TA3OUT/UD0B/UD1B/LIN0IN (io), 61 P3_0/TA0OUT/UD0A/UD1A/LIN0OUT (io), 63 P2_7/AN2_7 (io), 64 P2_6/AN2_6 (io), 65 P2_5/AN2_5 (io), 66 P2_4/AN2_4 (io), 67 P2_3/AN2_3 (io), 68 P2_2/AN2_2 (io), 69 P2_1/AN2_1 (io), 70 P2_0/AN2_0 (io), 71 P1_7/~{INT}5/IIO0_7/IIO1_7 (io), 72 P1_6/~{INT}4/IIO0_6/IIO1_6 (io), 73 P1_5/~{INT}3/IIO0_5/IIO1_5 (io), 74 P1_4/TB0IN/IIO0_4/IIO1_4 (io), 75 P1_3/~{SCS}0/IIO0_3/IIO1_3 (io), 76 P1_2/SSI0/IIO0_2/IIO1_2 (io), 77 P1_1/SSCK0/IIO0_1/IIO1_1 (io), 78 P1_0/SSO0/IIO0_0/IIO1_0 (io), 79 P0_7/AN0_7 (io), 80 P0_6/AN0_6 (io), 81 P0_5/AN0_5 (io), 82 P0_4/AN0_4 (io), 83 P0_3/AN0_3 (io), 84 P0_2/AN0_2 (io), 85 P0_1/AN0_1 (io), 86 P0_0/AN0_0 (io), 87 P10_7/~{KI}3/AN_7 (io), 88 P10_6/~{KI}2/AN_6 (io), 89 P10_5/~{KI}1/AN_5 (io), 90 P10_4/~{KI}0/AN_4 (io), 91 P10_3/AN_3 (io), 92 P10_2/AN_2 (io), 93 P10_1/AN_1 (io), 95 P10_0/AN_0 (io), 96 VREF (in), 98 P9_7/TB2IN/RxD4/~{ADTRG} (io), 99 P9_6/TxD4/ANEX1 (io), 100 P9_5/CLK4/ANEX0 (io)
part B pins: 12 VSS (power), 14 VCC (power), 60 VCC (power), 62 VSS (power), 94 AVSS (power), 97 AVCC / VCC (power)

## R5F6420EKFB
designator U?
Flash Memory R32C/100 Series, 120 Group MCU, 128K + 8K ROM, 12K RAM, 100-pin LQFP, Version K; Published: 28-Aug-2009; DatasheetVersion: Rev.0.50, Jul-2008; PackageVersion: Sep-2005; PackageReference: PLQP0100KB-A; Publisher: Altium Limited; PackageDescription: 100-Pin Plastic Low Profile QFP, 14 x 14 x 1.4 mm Body, 0.5 mm Pitch; Code_JEITA: P-LQFP100-14x14-0.50; Code_IPC: SQFP50P1600X1600-100; ComponentLink1Description: Manufacturer Link; ComponentLink1URL: http://sg.renesas.com/fmwk.jsp?cnt=m16c_family_landing.jsp&fp=/products/mpumcu/m16c_family/; ComponentLink2Description: Datasheet; ComponentLink2URL: http://documentation.renesas.com/eng/products/mpumcu/rej09b0476_r32c120hm.pdf; ComponentLink3Description: Packaging Specification; ComponentLink3URL: http://sg.renesas.com/media/products/common_info/package/pdf/ic/code/plqp0100kb_a.pdf
footprint PLQP0100KB-A_N (Shrink QFP, 100-Leads, Body 14x14mm, Pitch 0.5mm, IPC Medium Density)
footprint PLQP0100KB-A_L (Shrink QFP, 100-Leads, Body 14x14mm, Pitch 0.5mm, IPC High Density)
footprint PLQP0100KB-A_M (Shrink QFP, 100-Leads, Body 14x14mm, Pitch 0.5mm, IPC Low Density)
part A pins: 1 P9_4/TB4IN/~{CTS}4/~{RTS}4/DA1 (io), 2 P9_3/DA0/TB3IN (io), 3 VDC0, 4 P9_1 (io), 5 VDC1, 6 NSD (io), 7 CNVSS (in), 8 P8_7/XCIN (io), 9 P8_6/XCOUT (io), 10 ~{RESET} (in), 11 XOUT (out), 13 XIN (in), 15 P8_5/~{NMI} (io), 16 P8_4/~{INT}2 (io), 17 P8_3/~{INT}1/CAN0IN/~{CAN0WU} (io), 18 P8_2/~{INT}0/CAN0OUT (io), 19 P8_1/TA4IN/~{U}/TA3OUT/~{CTS}3/~{RTS}3/IIO1_5/UD0B/UD1B/LIN1OUT (io), 20 P8_0/TA4OUT/U/RxD3/UD0A/UD1A/LIN1IN (io), 21 P7_7/TA3IN/CLK3/IIO1_4/UD0B/UD1B/CAN0IN/~{CAN0WU} (io), 22 P7_6/TA3OUT/TxD3/IIO1_3/UD0A/UD1A/CAN0OUT (io), 23 P7_5/TA2IN/~{W}/IIO1_2/LIN0IN (io), 24 P7_4/TA2OUT/W/IIO1_1/LIN0OUT (io), 25 P7_3/TA1IN/~{V}/~{CTS}2/~{RTS}2/~{SS}2/IIO1_0 (io), 26 P7_2/TA1OUT/V/CLK2 (io), 27 P7_1/TB5IN/TA0IN/RxD2/SCL2/STxD2/IIO1_7 (io), 28 P7_0/TA0OUT/TxD2/SDA2/SRxD2/IIO1_6 (io), 29 P6_7/TxD1/SDA1/SRxD1 (io), 30 P6_6/RxD1/SCL1/STxD1 (io), 31 P6_5/CLK1 (io), 32 P6_4/~{CTS}1/~{RTS}1/~{SS}1 (io), 33 P6_3/TB5IN/TxD0/SDA0/SRxD0/SSO0 (io), 34 P6_2/TB2IN/RxD0/SCL0/STxD0/SSI0 (io), 35 P6_1/TB1IN/CLK0/SSCK0 (io), 36 P6_0/TB0IN/~{CTS}0/~{RTS}0/~{SS}0 (io), 37 P5_7/IIO0_7 (io), 38 P5_6/IIO0_6 (io), 39 P5_5/IIO0_5 (io), 40 P5_4/IIO0_4 (io), 41 P5_3/CLKOUT/IIO0_3 (io), 42 P5_2/IIO0_2 (io), 43 P5_1/IIO0_1 (io), 44 P5_0/IIO0_0 (io), 45 P4_7/IIO1_7/LIN1IN (io), 46 P4_6/IIO1_6/LIN1OUT (io), 47 P4_5/IIO1_5/LIN0IN (io), 48 P4_4/IIO1_4/LIN0OUT (io), 49 P4_3/TxD3/IIO1_3 (io), 50 P4_2/RxD3/IIO1_2 (io), 51 P4_1/CLK3/IIO1_1 (io), 52 P4_0/~{CTS}3/~{RTS}3/IIO1_0 (io), 53 P3_7/TA4IN/~{U}/TB1IN/~{CTS}4/~{RTS}4 (io), 54 P3_6/TA4OUT/U/TxD4 (io), 55 P3_5/TA2IN/~{W}/RxD4 (io), 56 P3_4/TA2OUT/W/CLK4 (io), 57 P3_3/TA1IN/~{V}/LIN1IN (io), 58 P3_2/TA1OUT/V/LIN1OUT (io), 59 P3_1/TA3OUT/UD0B/UD1B/LIN0IN (io), 61 P3_0/TA0OUT/UD0A/UD1A/LIN0OUT (io), 63 P2_7/AN2_7 (io), 64 P2_6/AN2_6 (io), 65 P2_5/AN2_5 (io), 66 P2_4/AN2_4 (io), 67 P2_3/AN2_3 (io), 68 P2_2/AN2_2 (io), 69 P2_1/AN2_1 (io), 70 P2_0/AN2_0 (io), 71 P1_7/~{INT}5/IIO0_7/IIO1_7 (io), 72 P1_6/~{INT}4/IIO0_6/IIO1_6 (io), 73 P1_5/~{INT}3/IIO0_5/IIO1_5 (io), 74 P1_4/TB0IN/IIO0_4/IIO1_4 (io), 75 P1_3/~{SCS}0/IIO0_3/IIO1_3 (io), 76 P1_2/SSI0/IIO0_2/IIO1_2 (io), 77 P1_1/SSCK0/IIO0_1/IIO1_1 (io), 78 P1_0/SSO0/IIO0_0/IIO1_0 (io), 79 P0_7/AN0_7 (io), 80 P0_6/AN0_6 (io), 81 P0_5/AN0_5 (io), 82 P0_4/AN0_4 (io), 83 P0_3/AN0_3 (io), 84 P0_2/AN0_2 (io), 85 P0_1/AN0_1 (io), 86 P0_0/AN0_0 (io), 87 P10_7/~{KI}3/AN_7 (io), 88 P10_6/~{KI}2/AN_6 (io), 89 P10_5/~{KI}1/AN_5 (io), 90 P10_4/~{KI}0/AN_4 (io), 91 P10_3/AN_3 (io), 92 P10_2/AN_2 (io), 93 P10_1/AN_1 (io), 95 P10_0/AN_0 (io), 96 VREF (in), 98 P9_7/TB2IN/RxD4/~{ADTRG} (io), 99 P9_6/TxD4/ANEX1 (io), 100 P9_5/CLK4/ANEX0 (io)
part B pins: 12 VSS (power), 14 VCC (power), 60 VCC (power), 62 VSS (power), 94 AVSS (power), 97 AVCC / VCC (power)

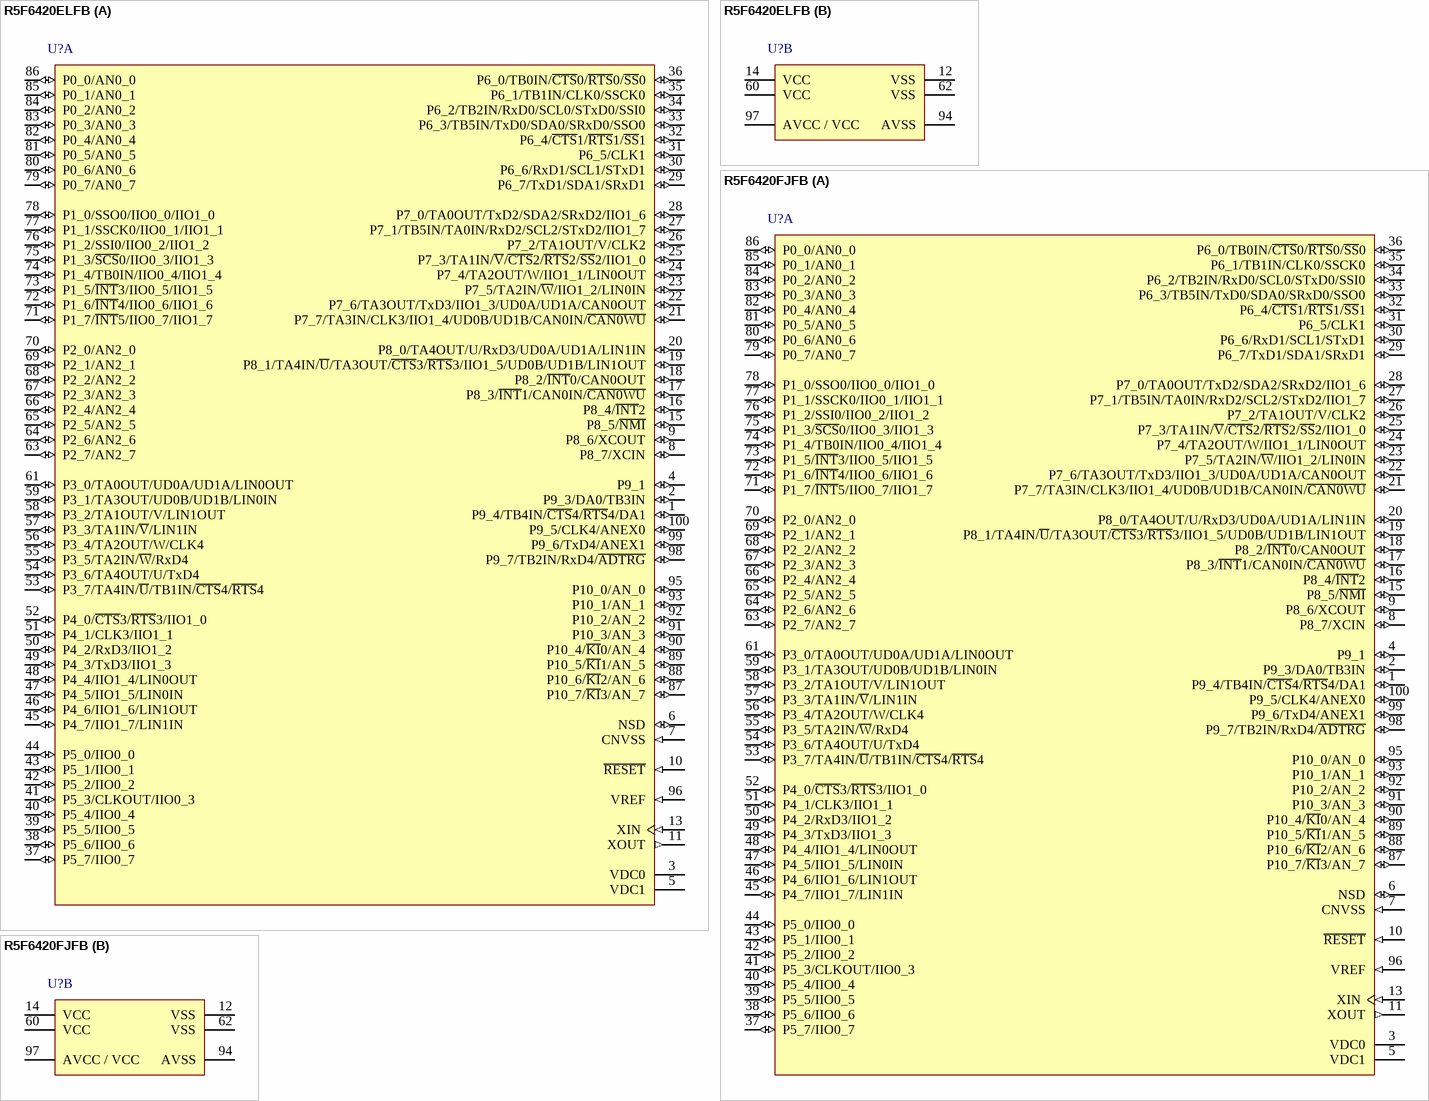
[diagram p5: symbols R5F6420ELFB to R5F6420FJFB]

## R5F6420ELFB
designator U?
Flash Memory R32C/100 Series, 120 Group MCU, 128K + 8K ROM, 12K RAM, 100-pin LQFP, Version L; Published: 28-Aug-2009; DatasheetVersion: Rev.0.50, Jul-2008; PackageVersion: Sep-2005; PackageReference: PLQP0100KB-A; Publisher: Altium Limited; PackageDescription: 100-Pin Plastic Low Profile QFP, 14 x 14 x 1.4 mm Body, 0.5 mm Pitch; Code_JEITA: P-LQFP100-14x14-0.50; Code_IPC: SQFP50P1600X1600-100; ComponentLink1Description: Manufacturer Link; ComponentLink1URL: http://sg.renesas.com/fmwk.jsp?cnt=m16c_family_landing.jsp&fp=/products/mpumcu/m16c_family/; ComponentLink2Description: Datasheet; ComponentLink2URL: http://documentation.renesas.com/eng/products/mpumcu/rej09b0476_r32c120hm.pdf; ComponentLink3Description: Packaging Specification; ComponentLink3URL: http://sg.renesas.com/media/products/common_info/package/pdf/ic/code/plqp0100kb_a.pdf
footprint PLQP0100KB-A_N (Shrink QFP, 100-Leads, Body 14x14mm, Pitch 0.5mm, IPC Medium Density)
footprint PLQP0100KB-A_L (Shrink QFP, 100-Leads, Body 14x14mm, Pitch 0.5mm, IPC High Density)
footprint PLQP0100KB-A_M (Shrink QFP, 100-Leads, Body 14x14mm, Pitch 0.5mm, IPC Low Density)
part A pins: 1 P9_4/TB4IN/~{CTS}4/~{RTS}4/DA1 (io), 2 P9_3/DA0/TB3IN (io), 3 VDC0, 4 P9_1 (io), 5 VDC1, 6 NSD (io), 7 CNVSS (in), 8 P8_7/XCIN (io), 9 P8_6/XCOUT (io), 10 ~{RESET} (in), 11 XOUT (out), 13 XIN (in), 15 P8_5/~{NMI} (io), 16 P8_4/~{INT}2 (io), 17 P8_3/~{INT}1/CAN0IN/~{CAN0WU} (io), 18 P8_2/~{INT}0/CAN0OUT (io), 19 P8_1/TA4IN/~{U}/TA3OUT/~{CTS}3/~{RTS}3/IIO1_5/UD0B/UD1B/LIN1OUT (io), 20 P8_0/TA4OUT/U/RxD3/UD0A/UD1A/LIN1IN (io), 21 P7_7/TA3IN/CLK3/IIO1_4/UD0B/UD1B/CAN0IN/~{CAN0WU} (io), 22 P7_6/TA3OUT/TxD3/IIO1_3/UD0A/UD1A/CAN0OUT (io), 23 P7_5/TA2IN/~{W}/IIO1_2/LIN0IN (io), 24 P7_4/TA2OUT/W/IIO1_1/LIN0OUT (io), 25 P7_3/TA1IN/~{V}/~{CTS}2/~{RTS}2/~{SS}2/IIO1_0 (io), 26 P7_2/TA1OUT/V/CLK2 (io), 27 P7_1/TB5IN/TA0IN/RxD2/SCL2/STxD2/IIO1_7 (io), 28 P7_0/TA0OUT/TxD2/SDA2/SRxD2/IIO1_6 (io), 29 P6_7/TxD1/SDA1/SRxD1 (io), 30 P6_6/RxD1/SCL1/STxD1 (io), 31 P6_5/CLK1 (io), 32 P6_4/~{CTS}1/~{RTS}1/~{SS}1 (io), 33 P6_3/TB5IN/TxD0/SDA0/SRxD0/SSO0 (io), 34 P6_2/TB2IN/RxD0/SCL0/STxD0/SSI0 (io), 35 P6_1/TB1IN/CLK0/SSCK0 (io), 36 P6_0/TB0IN/~{CTS}0/~{RTS}0/~{SS}0 (io), 37 P5_7/IIO0_7 (io), 38 P5_6/IIO0_6 (io), 39 P5_5/IIO0_5 (io), 40 P5_4/IIO0_4 (io), 41 P5_3/CLKOUT/IIO0_3 (io), 42 P5_2/IIO0_2 (io), 43 P5_1/IIO0_1 (io), 44 P5_0/IIO0_0 (io), 45 P4_7/IIO1_7/LIN1IN (io), 46 P4_6/IIO1_6/LIN1OUT (io), 47 P4_5/IIO1_5/LIN0IN (io), 48 P4_4/IIO1_4/LIN0OUT (io), 49 P4_3/TxD3/IIO1_3 (io), 50 P4_2/RxD3/IIO1_2 (io), 51 P4_1/CLK3/IIO1_1 (io), 52 P4_0/~{CTS}3/~{RTS}3/IIO1_0 (io), 53 P3_7/TA4IN/~{U}/TB1IN/~{CTS}4/~{RTS}4 (io), 54 P3_6/TA4OUT/U/TxD4 (io), 55 P3_5/TA2IN/~{W}/RxD4 (io), 56 P3_4/TA2OUT/W/CLK4 (io), 57 P3_3/TA1IN/~{V}/LIN1IN (io), 58 P3_2/TA1OUT/V/LIN1OUT (io), 59 P3_1/TA3OUT/UD0B/UD1B/LIN0IN (io), 61 P3_0/TA0OUT/UD0A/UD1A/LIN0OUT (io), 63 P2_7/AN2_7 (io), 64 P2_6/AN2_6 (io), 65 P2_5/AN2_5 (io), 66 P2_4/AN2_4 (io), 67 P2_3/AN2_3 (io), 68 P2_2/AN2_2 (io), 69 P2_1/AN2_1 (io), 70 P2_0/AN2_0 (io), 71 P1_7/~{INT}5/IIO0_7/IIO1_7 (io), 72 P1_6/~{INT}4/IIO0_6/IIO1_6 (io), 73 P1_5/~{INT}3/IIO0_5/IIO1_5 (io), 74 P1_4/TB0IN/IIO0_4/IIO1_4 (io), 75 P1_3/~{SCS}0/IIO0_3/IIO1_3 (io), 76 P1_2/SSI0/IIO0_2/IIO1_2 (io), 77 P1_1/SSCK0/IIO0_1/IIO1_1 (io), 78 P1_0/SSO0/IIO0_0/IIO1_0 (io), 79 P0_7/AN0_7 (io), 80 P0_6/AN0_6 (io), 81 P0_5/AN0_5 (io), 82 P0_4/AN0_4 (io), 83 P0_3/AN0_3 (io), 84 P0_2/AN0_2 (io), 85 P0_1/AN0_1 (io), 86 P0_0/AN0_0 (io), 87 P10_7/~{KI}3/AN_7 (io), 88 P10_6/~{KI}2/AN_6 (io), 89 P10_5/~{KI}1/AN_5 (io), 90 P10_4/~{KI}0/AN_4 (io), 91 P10_3/AN_3 (io), 92 P10_2/AN_2 (io), 93 P10_1/AN_1 (io), 95 P10_0/AN_0 (io), 96 VREF (in), 98 P9_7/TB2IN/RxD4/~{ADTRG} (io), 99 P9_6/TxD4/ANEX1 (io), 100 P9_5/CLK4/ANEX0 (io)
part B pins: 12 VSS (power), 14 VCC (power), 60 VCC (power), 62 VSS (power), 94 AVSS (power), 97 AVCC / VCC (power)

## R5F6420FJFB
designator U?
Flash Memory R32C/100 Series, 120 Group MCU, 256K + 8K ROM, 20K RAM, 100-pin LQFP, Version J; Published: 28-Aug-2009; DatasheetVersion: Rev.0.50, Jul-2008; PackageVersion: Sep-2005; PackageReference: PLQP0100KB-A; Publisher: Altium Limited; PackageDescription: 100-Pin Plastic Low Profile QFP, 14 x 14 x 1.4 mm Body, 0.5 mm Pitch; Code_JEITA: P-LQFP100-14x14-0.50; Code_IPC: SQFP50P1600X1600-100; ComponentLink1Description: Manufacturer Link; ComponentLink1URL: http://sg.renesas.com/fmwk.jsp?cnt=m16c_family_landing.jsp&fp=/products/mpumcu/m16c_family/; ComponentLink2Description: Datasheet; ComponentLink2URL: http://documentation.renesas.com/eng/products/mpumcu/rej09b0476_r32c120hm.pdf; ComponentLink3Description: Packaging Specification; ComponentLink3URL: http://sg.renesas.com/media/products/common_info/package/pdf/ic/code/plqp0100kb_a.pdf
footprint PLQP0100KB-A_N (Shrink QFP, 100-Leads, Body 14x14mm, Pitch 0.5mm, IPC Medium Density)
footprint PLQP0100KB-A_L (Shrink QFP, 100-Leads, Body 14x14mm, Pitch 0.5mm, IPC High Density)
footprint PLQP0100KB-A_M (Shrink QFP, 100-Leads, Body 14x14mm, Pitch 0.5mm, IPC Low Density)
part A pins: 1 P9_4/TB4IN/~{CTS}4/~{RTS}4/DA1 (io), 2 P9_3/DA0/TB3IN (io), 3 VDC0, 4 P9_1 (io), 5 VDC1, 6 NSD (io), 7 CNVSS (in), 8 P8_7/XCIN (io), 9 P8_6/XCOUT (io), 10 ~{RESET} (in), 11 XOUT (out), 13 XIN (in), 15 P8_5/~{NMI} (io), 16 P8_4/~{INT}2 (io), 17 P8_3/~{INT}1/CAN0IN/~{CAN0WU} (io), 18 P8_2/~{INT}0/CAN0OUT (io), 19 P8_1/TA4IN/~{U}/TA3OUT/~{CTS}3/~{RTS}3/IIO1_5/UD0B/UD1B/LIN1OUT (io), 20 P8_0/TA4OUT/U/RxD3/UD0A/UD1A/LIN1IN (io), 21 P7_7/TA3IN/CLK3/IIO1_4/UD0B/UD1B/CAN0IN/~{CAN0WU} (io), 22 P7_6/TA3OUT/TxD3/IIO1_3/UD0A/UD1A/CAN0OUT (io), 23 P7_5/TA2IN/~{W}/IIO1_2/LIN0IN (io), 24 P7_4/TA2OUT/W/IIO1_1/LIN0OUT (io), 25 P7_3/TA1IN/~{V}/~{CTS}2/~{RTS}2/~{SS}2/IIO1_0 (io), 26 P7_2/TA1OUT/V/CLK2 (io), 27 P7_1/TB5IN/TA0IN/RxD2/SCL2/STxD2/IIO1_7 (io), 28 P7_0/TA0OUT/TxD2/SDA2/SRxD2/IIO1_6 (io), 29 P6_7/TxD1/SDA1/SRxD1 (io), 30 P6_6/RxD1/SCL1/STxD1 (io), 31 P6_5/CLK1 (io), 32 P6_4/~{CTS}1/~{RTS}1/~{SS}1 (io), 33 P6_3/TB5IN/TxD0/SDA0/SRxD0/SSO0 (io), 34 P6_2/TB2IN/RxD0/SCL0/STxD0/SSI0 (io), 35 P6_1/TB1IN/CLK0/SSCK0 (io), 36 P6_0/TB0IN/~{CTS}0/~{RTS}0/~{SS}0 (io), 37 P5_7/IIO0_7 (io), 38 P5_6/IIO0_6 (io), 39 P5_5/IIO0_5 (io), 40 P5_4/IIO0_4 (io), 41 P5_3/CLKOUT/IIO0_3 (io), 42 P5_2/IIO0_2 (io), 43 P5_1/IIO0_1 (io), 44 P5_0/IIO0_0 (io), 45 P4_7/IIO1_7/LIN1IN (io), 46 P4_6/IIO1_6/LIN1OUT (io), 47 P4_5/IIO1_5/LIN0IN (io), 48 P4_4/IIO1_4/LIN0OUT (io), 49 P4_3/TxD3/IIO1_3 (io), 50 P4_2/RxD3/IIO1_2 (io), 51 P4_1/CLK3/IIO1_1 (io), 52 P4_0/~{CTS}3/~{RTS}3/IIO1_0 (io), 53 P3_7/TA4IN/~{U}/TB1IN/~{CTS}4/~{RTS}4 (io), 54 P3_6/TA4OUT/U/TxD4 (io), 55 P3_5/TA2IN/~{W}/RxD4 (io), 56 P3_4/TA2OUT/W/CLK4 (io), 57 P3_3/TA1IN/~{V}/LIN1IN (io), 58 P3_2/TA1OUT/V/LIN1OUT (io), 59 P3_1/TA3OUT/UD0B/UD1B/LIN0IN (io), 61 P3_0/TA0OUT/UD0A/UD1A/LIN0OUT (io), 63 P2_7/AN2_7 (io), 64 P2_6/AN2_6 (io), 65 P2_5/AN2_5 (io), 66 P2_4/AN2_4 (io), 67 P2_3/AN2_3 (io), 68 P2_2/AN2_2 (io), 69 P2_1/AN2_1 (io), 70 P2_0/AN2_0 (io), 71 P1_7/~{INT}5/IIO0_7/IIO1_7 (io), 72 P1_6/~{INT}4/IIO0_6/IIO1_6 (io), 73 P1_5/~{INT}3/IIO0_5/IIO1_5 (io), 74 P1_4/TB0IN/IIO0_4/IIO1_4 (io), 75 P1_3/~{SCS}0/IIO0_3/IIO1_3 (io), 76 P1_2/SSI0/IIO0_2/IIO1_2 (io), 77 P1_1/SSCK0/IIO0_1/IIO1_1 (io), 78 P1_0/SSO0/IIO0_0/IIO1_0 (io), 79 P0_7/AN0_7 (io), 80 P0_6/AN0_6 (io), 81 P0_5/AN0_5 (io), 82 P0_4/AN0_4 (io), 83 P0_3/AN0_3 (io), 84 P0_2/AN0_2 (io), 85 P0_1/AN0_1 (io), 86 P0_0/AN0_0 (io), 87 P10_7/~{KI}3/AN_7 (io), 88 P10_6/~{KI}2/AN_6 (io), 89 P10_5/~{KI}1/AN_5 (io), 90 P10_4/~{KI}0/AN_4 (io), 91 P10_3/AN_3 (io), 92 P10_2/AN_2 (io), 93 P10_1/AN_1 (io), 95 P10_0/AN_0 (io), 96 VREF (in), 98 P9_7/TB2IN/RxD4/~{ADTRG} (io), 99 P9_6/TxD4/ANEX1 (io), 100 P9_5/CLK4/ANEX0 (io)
part B pins: 12 VSS (power), 14 VCC (power), 60 VCC (power), 62 VSS (power), 94 AVSS (power), 97 AVCC / VCC (power)

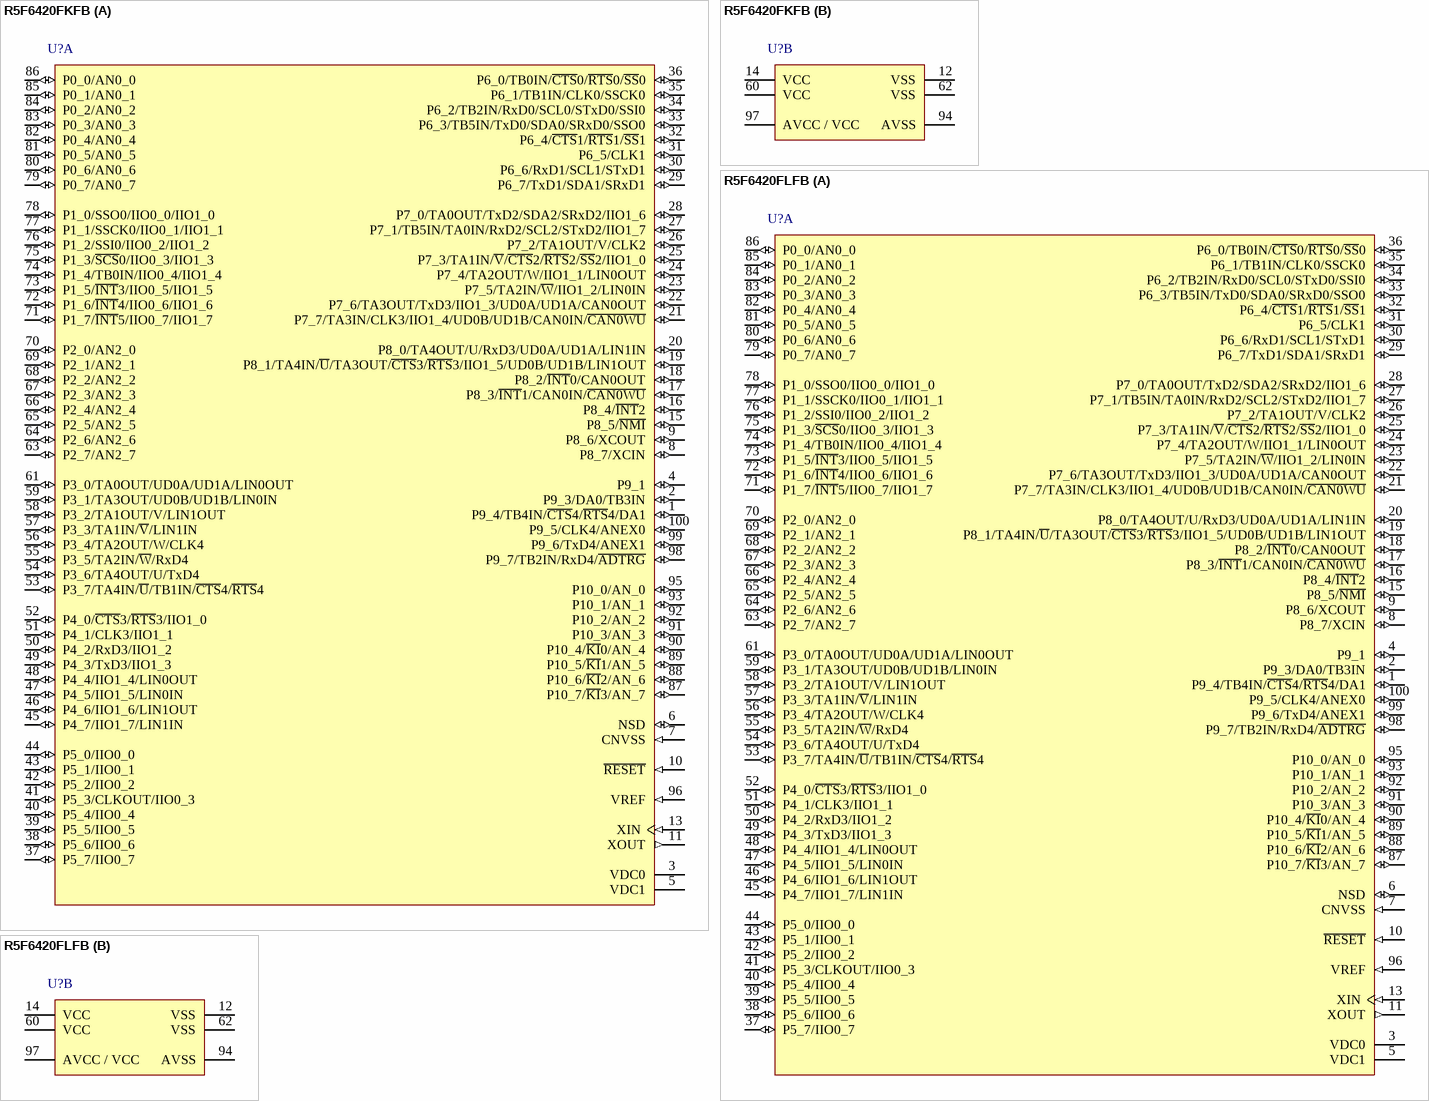
[diagram p6: symbols R5F6420FKFB to R5F6420FLFB]

## R5F6420FKFB
designator U?
Flash Memory R32C/100 Series, 120 Group MCU, 256K + 8K ROM, 20K RAM, 100-pin LQFP, Version K; Published: 28-Aug-2009; DatasheetVersion: Rev.0.50, Jul-2008; PackageVersion: Sep-2005; PackageReference: PLQP0100KB-A; Publisher: Altium Limited; PackageDescription: 100-Pin Plastic Low Profile QFP, 14 x 14 x 1.4 mm Body, 0.5 mm Pitch; Code_JEITA: P-LQFP100-14x14-0.50; Code_IPC: SQFP50P1600X1600-100; ComponentLink1Description: Manufacturer Link; ComponentLink1URL: http://sg.renesas.com/fmwk.jsp?cnt=m16c_family_landing.jsp&fp=/products/mpumcu/m16c_family/; ComponentLink2Description: Datasheet; ComponentLink2URL: http://documentation.renesas.com/eng/products/mpumcu/rej09b0476_r32c120hm.pdf; ComponentLink3Description: Packaging Specification; ComponentLink3URL: http://sg.renesas.com/media/products/common_info/package/pdf/ic/code/plqp0100kb_a.pdf
footprint PLQP0100KB-A_N (Shrink QFP, 100-Leads, Body 14x14mm, Pitch 0.5mm, IPC Medium Density)
footprint PLQP0100KB-A_L (Shrink QFP, 100-Leads, Body 14x14mm, Pitch 0.5mm, IPC High Density)
footprint PLQP0100KB-A_M (Shrink QFP, 100-Leads, Body 14x14mm, Pitch 0.5mm, IPC Low Density)
part A pins: 1 P9_4/TB4IN/~{CTS}4/~{RTS}4/DA1 (io), 2 P9_3/DA0/TB3IN (io), 3 VDC0, 4 P9_1 (io), 5 VDC1, 6 NSD (io), 7 CNVSS (in), 8 P8_7/XCIN (io), 9 P8_6/XCOUT (io), 10 ~{RESET} (in), 11 XOUT (out), 13 XIN (in), 15 P8_5/~{NMI} (io), 16 P8_4/~{INT}2 (io), 17 P8_3/~{INT}1/CAN0IN/~{CAN0WU} (io), 18 P8_2/~{INT}0/CAN0OUT (io), 19 P8_1/TA4IN/~{U}/TA3OUT/~{CTS}3/~{RTS}3/IIO1_5/UD0B/UD1B/LIN1OUT (io), 20 P8_0/TA4OUT/U/RxD3/UD0A/UD1A/LIN1IN (io), 21 P7_7/TA3IN/CLK3/IIO1_4/UD0B/UD1B/CAN0IN/~{CAN0WU} (io), 22 P7_6/TA3OUT/TxD3/IIO1_3/UD0A/UD1A/CAN0OUT (io), 23 P7_5/TA2IN/~{W}/IIO1_2/LIN0IN (io), 24 P7_4/TA2OUT/W/IIO1_1/LIN0OUT (io), 25 P7_3/TA1IN/~{V}/~{CTS}2/~{RTS}2/~{SS}2/IIO1_0 (io), 26 P7_2/TA1OUT/V/CLK2 (io), 27 P7_1/TB5IN/TA0IN/RxD2/SCL2/STxD2/IIO1_7 (io), 28 P7_0/TA0OUT/TxD2/SDA2/SRxD2/IIO1_6 (io), 29 P6_7/TxD1/SDA1/SRxD1 (io), 30 P6_6/RxD1/SCL1/STxD1 (io), 31 P6_5/CLK1 (io), 32 P6_4/~{CTS}1/~{RTS}1/~{SS}1 (io), 33 P6_3/TB5IN/TxD0/SDA0/SRxD0/SSO0 (io), 34 P6_2/TB2IN/RxD0/SCL0/STxD0/SSI0 (io), 35 P6_1/TB1IN/CLK0/SSCK0 (io), 36 P6_0/TB0IN/~{CTS}0/~{RTS}0/~{SS}0 (io), 37 P5_7/IIO0_7 (io), 38 P5_6/IIO0_6 (io), 39 P5_5/IIO0_5 (io), 40 P5_4/IIO0_4 (io), 41 P5_3/CLKOUT/IIO0_3 (io), 42 P5_2/IIO0_2 (io), 43 P5_1/IIO0_1 (io), 44 P5_0/IIO0_0 (io), 45 P4_7/IIO1_7/LIN1IN (io), 46 P4_6/IIO1_6/LIN1OUT (io), 47 P4_5/IIO1_5/LIN0IN (io), 48 P4_4/IIO1_4/LIN0OUT (io), 49 P4_3/TxD3/IIO1_3 (io), 50 P4_2/RxD3/IIO1_2 (io), 51 P4_1/CLK3/IIO1_1 (io), 52 P4_0/~{CTS}3/~{RTS}3/IIO1_0 (io), 53 P3_7/TA4IN/~{U}/TB1IN/~{CTS}4/~{RTS}4 (io), 54 P3_6/TA4OUT/U/TxD4 (io), 55 P3_5/TA2IN/~{W}/RxD4 (io), 56 P3_4/TA2OUT/W/CLK4 (io), 57 P3_3/TA1IN/~{V}/LIN1IN (io), 58 P3_2/TA1OUT/V/LIN1OUT (io), 59 P3_1/TA3OUT/UD0B/UD1B/LIN0IN (io), 61 P3_0/TA0OUT/UD0A/UD1A/LIN0OUT (io), 63 P2_7/AN2_7 (io), 64 P2_6/AN2_6 (io), 65 P2_5/AN2_5 (io), 66 P2_4/AN2_4 (io), 67 P2_3/AN2_3 (io), 68 P2_2/AN2_2 (io), 69 P2_1/AN2_1 (io), 70 P2_0/AN2_0 (io), 71 P1_7/~{INT}5/IIO0_7/IIO1_7 (io), 72 P1_6/~{INT}4/IIO0_6/IIO1_6 (io), 73 P1_5/~{INT}3/IIO0_5/IIO1_5 (io), 74 P1_4/TB0IN/IIO0_4/IIO1_4 (io), 75 P1_3/~{SCS}0/IIO0_3/IIO1_3 (io), 76 P1_2/SSI0/IIO0_2/IIO1_2 (io), 77 P1_1/SSCK0/IIO0_1/IIO1_1 (io), 78 P1_0/SSO0/IIO0_0/IIO1_0 (io), 79 P0_7/AN0_7 (io), 80 P0_6/AN0_6 (io), 81 P0_5/AN0_5 (io), 82 P0_4/AN0_4 (io), 83 P0_3/AN0_3 (io), 84 P0_2/AN0_2 (io), 85 P0_1/AN0_1 (io), 86 P0_0/AN0_0 (io), 87 P10_7/~{KI}3/AN_7 (io), 88 P10_6/~{KI}2/AN_6 (io), 89 P10_5/~{KI}1/AN_5 (io), 90 P10_4/~{KI}0/AN_4 (io), 91 P10_3/AN_3 (io), 92 P10_2/AN_2 (io), 93 P10_1/AN_1 (io), 95 P10_0/AN_0 (io), 96 VREF (in), 98 P9_7/TB2IN/RxD4/~{ADTRG} (io), 99 P9_6/TxD4/ANEX1 (io), 100 P9_5/CLK4/ANEX0 (io)
part B pins: 12 VSS (power), 14 VCC (power), 60 VCC (power), 62 VSS (power), 94 AVSS (power), 97 AVCC / VCC (power)

## R5F6420FLFB
designator U?
Flash Memory R32C/100 Series, 120 Group MCU, 256K + 8K ROM, 20K RAM, 100-pin LQFP, Version L; Published: 28-Aug-2009; DatasheetVersion: Rev.0.50, Jul-2008; PackageVersion: Sep-2005; PackageReference: PLQP0100KB-A; Publisher: Altium Limited; PackageDescription: 100-Pin Plastic Low Profile QFP, 14 x 14 x 1.4 mm Body, 0.5 mm Pitch; Code_JEITA: P-LQFP100-14x14-0.50; Code_IPC: SQFP50P1600X1600-100; ComponentLink1Description: Manufacturer Link; ComponentLink1URL: http://sg.renesas.com/fmwk.jsp?cnt=m16c_family_landing.jsp&fp=/products/mpumcu/m16c_family/; ComponentLink2Description: Datasheet; ComponentLink2URL: http://documentation.renesas.com/eng/products/mpumcu/rej09b0476_r32c120hm.pdf; ComponentLink3Description: Packaging Specification; ComponentLink3URL: http://sg.renesas.com/media/products/common_info/package/pdf/ic/code/plqp0100kb_a.pdf
footprint PLQP0100KB-A_N (Shrink QFP, 100-Leads, Body 14x14mm, Pitch 0.5mm, IPC Medium Density)
footprint PLQP0100KB-A_L (Shrink QFP, 100-Leads, Body 14x14mm, Pitch 0.5mm, IPC High Density)
footprint PLQP0100KB-A_M (Shrink QFP, 100-Leads, Body 14x14mm, Pitch 0.5mm, IPC Low Density)
part A pins: 1 P9_4/TB4IN/~{CTS}4/~{RTS}4/DA1 (io), 2 P9_3/DA0/TB3IN (io), 3 VDC0, 4 P9_1 (io), 5 VDC1, 6 NSD (io), 7 CNVSS (in), 8 P8_7/XCIN (io), 9 P8_6/XCOUT (io), 10 ~{RESET} (in), 11 XOUT (out), 13 XIN (in), 15 P8_5/~{NMI} (io), 16 P8_4/~{INT}2 (io), 17 P8_3/~{INT}1/CAN0IN/~{CAN0WU} (io), 18 P8_2/~{INT}0/CAN0OUT (io), 19 P8_1/TA4IN/~{U}/TA3OUT/~{CTS}3/~{RTS}3/IIO1_5/UD0B/UD1B/LIN1OUT (io), 20 P8_0/TA4OUT/U/RxD3/UD0A/UD1A/LIN1IN (io), 21 P7_7/TA3IN/CLK3/IIO1_4/UD0B/UD1B/CAN0IN/~{CAN0WU} (io), 22 P7_6/TA3OUT/TxD3/IIO1_3/UD0A/UD1A/CAN0OUT (io), 23 P7_5/TA2IN/~{W}/IIO1_2/LIN0IN (io), 24 P7_4/TA2OUT/W/IIO1_1/LIN0OUT (io), 25 P7_3/TA1IN/~{V}/~{CTS}2/~{RTS}2/~{SS}2/IIO1_0 (io), 26 P7_2/TA1OUT/V/CLK2 (io), 27 P7_1/TB5IN/TA0IN/RxD2/SCL2/STxD2/IIO1_7 (io), 28 P7_0/TA0OUT/TxD2/SDA2/SRxD2/IIO1_6 (io), 29 P6_7/TxD1/SDA1/SRxD1 (io), 30 P6_6/RxD1/SCL1/STxD1 (io), 31 P6_5/CLK1 (io), 32 P6_4/~{CTS}1/~{RTS}1/~{SS}1 (io), 33 P6_3/TB5IN/TxD0/SDA0/SRxD0/SSO0 (io), 34 P6_2/TB2IN/RxD0/SCL0/STxD0/SSI0 (io), 35 P6_1/TB1IN/CLK0/SSCK0 (io), 36 P6_0/TB0IN/~{CTS}0/~{RTS}0/~{SS}0 (io), 37 P5_7/IIO0_7 (io), 38 P5_6/IIO0_6 (io), 39 P5_5/IIO0_5 (io), 40 P5_4/IIO0_4 (io), 41 P5_3/CLKOUT/IIO0_3 (io), 42 P5_2/IIO0_2 (io), 43 P5_1/IIO0_1 (io), 44 P5_0/IIO0_0 (io), 45 P4_7/IIO1_7/LIN1IN (io), 46 P4_6/IIO1_6/LIN1OUT (io), 47 P4_5/IIO1_5/LIN0IN (io), 48 P4_4/IIO1_4/LIN0OUT (io), 49 P4_3/TxD3/IIO1_3 (io), 50 P4_2/RxD3/IIO1_2 (io), 51 P4_1/CLK3/IIO1_1 (io), 52 P4_0/~{CTS}3/~{RTS}3/IIO1_0 (io), 53 P3_7/TA4IN/~{U}/TB1IN/~{CTS}4/~{RTS}4 (io), 54 P3_6/TA4OUT/U/TxD4 (io), 55 P3_5/TA2IN/~{W}/RxD4 (io), 56 P3_4/TA2OUT/W/CLK4 (io), 57 P3_3/TA1IN/~{V}/LIN1IN (io), 58 P3_2/TA1OUT/V/LIN1OUT (io), 59 P3_1/TA3OUT/UD0B/UD1B/LIN0IN (io), 61 P3_0/TA0OUT/UD0A/UD1A/LIN0OUT (io), 63 P2_7/AN2_7 (io), 64 P2_6/AN2_6 (io), 65 P2_5/AN2_5 (io), 66 P2_4/AN2_4 (io), 67 P2_3/AN2_3 (io), 68 P2_2/AN2_2 (io), 69 P2_1/AN2_1 (io), 70 P2_0/AN2_0 (io), 71 P1_7/~{INT}5/IIO0_7/IIO1_7 (io), 72 P1_6/~{INT}4/IIO0_6/IIO1_6 (io), 73 P1_5/~{INT}3/IIO0_5/IIO1_5 (io), 74 P1_4/TB0IN/IIO0_4/IIO1_4 (io), 75 P1_3/~{SCS}0/IIO0_3/IIO1_3 (io), 76 P1_2/SSI0/IIO0_2/IIO1_2 (io), 77 P1_1/SSCK0/IIO0_1/IIO1_1 (io), 78 P1_0/SSO0/IIO0_0/IIO1_0 (io), 79 P0_7/AN0_7 (io), 80 P0_6/AN0_6 (io), 81 P0_5/AN0_5 (io), 82 P0_4/AN0_4 (io), 83 P0_3/AN0_3 (io), 84 P0_2/AN0_2 (io), 85 P0_1/AN0_1 (io), 86 P0_0/AN0_0 (io), 87 P10_7/~{KI}3/AN_7 (io), 88 P10_6/~{KI}2/AN_6 (io), 89 P10_5/~{KI}1/AN_5 (io), 90 P10_4/~{KI}0/AN_4 (io), 91 P10_3/AN_3 (io), 92 P10_2/AN_2 (io), 93 P10_1/AN_1 (io), 95 P10_0/AN_0 (io), 96 VREF (in), 98 P9_7/TB2IN/RxD4/~{ADTRG} (io), 99 P9_6/TxD4/ANEX1 (io), 100 P9_5/CLK4/ANEX0 (io)
part B pins: 12 VSS (power), 14 VCC (power), 60 VCC (power), 62 VSS (power), 94 AVSS (power), 97 AVCC / VCC (power)

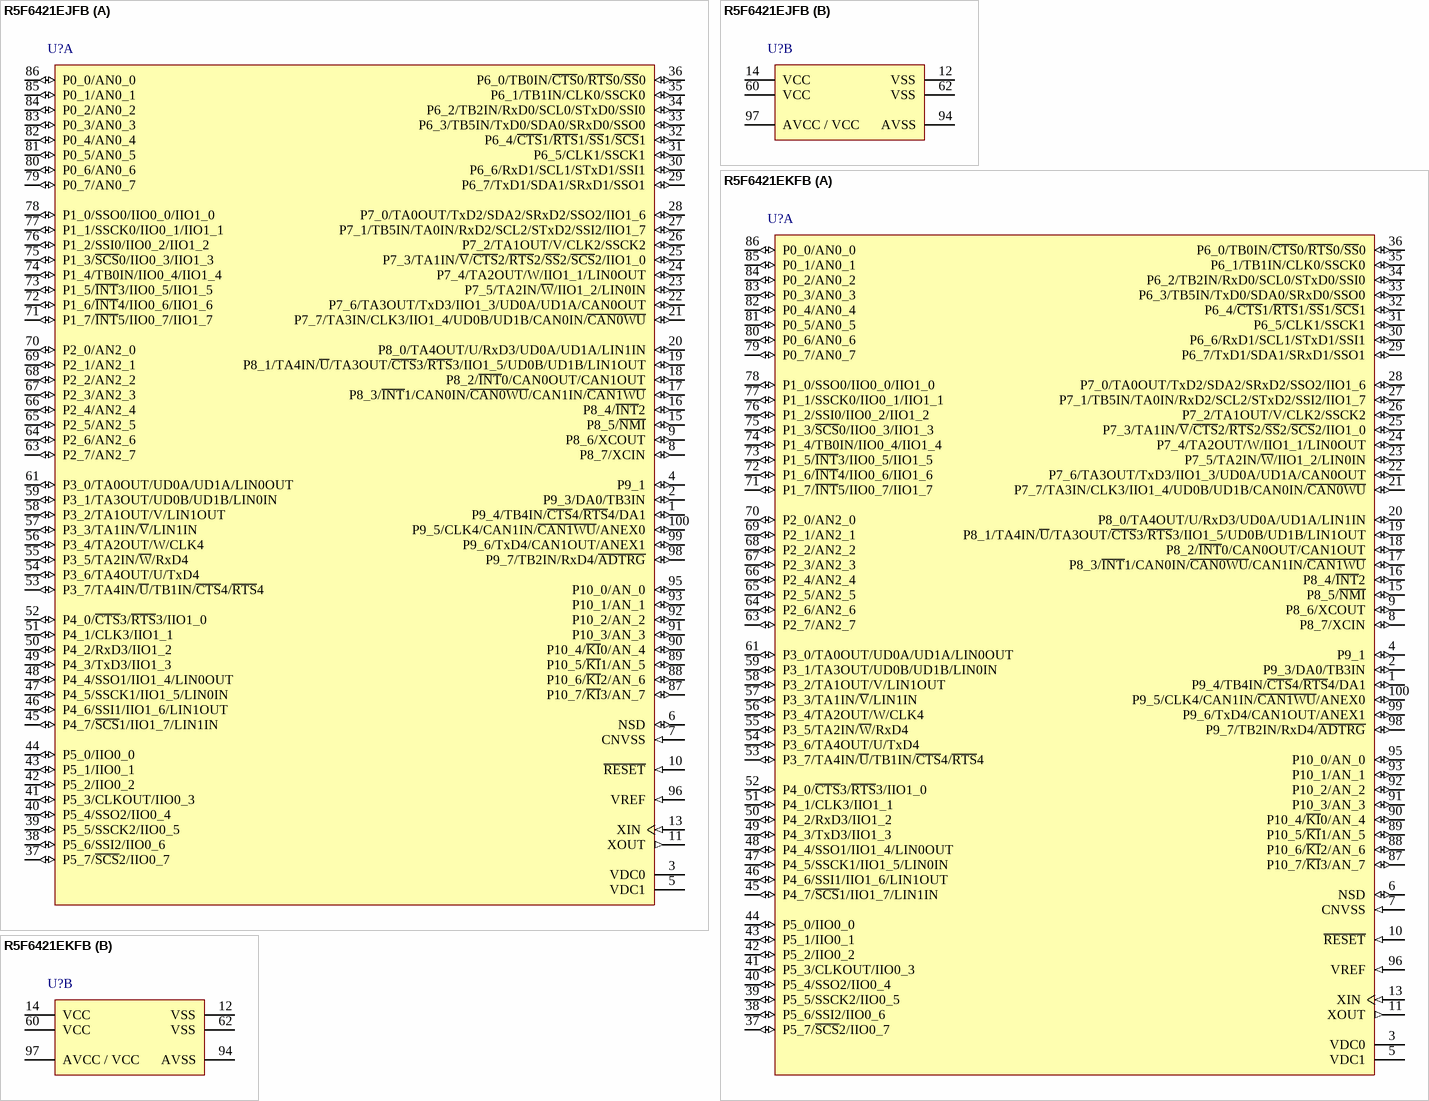
[diagram p7: symbols R5F6421EJFB to R5F6421EKFB]

## R5F6421EJFB
designator U?
Flash Memory R32C/100 Series, 121 Group MCU, 128K + 8K ROM, 12K RAM, 100-pin LQFP, Version J; Published: 28-Aug-2009; DatasheetVersion: Rev.0.50, Jul-2008; PackageVersion: Sep-2005; PackageReference: PLQP0100KB-A; Publisher: Altium Limited; PackageDescription: 100-Pin Plastic Low Profile QFP, 14 x 14 x 1.4 mm Body, 0.5 mm Pitch; Code_JEITA: P-LQFP100-14x14-0.50; Code_IPC: SQFP50P1600X1600-100; ComponentLink1Description: Manufacturer Link; ComponentLink1URL: http://sg.renesas.com/fmwk.jsp?cnt=m16c_family_landing.jsp&fp=/products/mpumcu/m16c_family/; ComponentLink2Description: Datasheet; ComponentLink2URL: http://documentation.renesas.com/eng/products/mpumcu/rej09b0477_r32c121hm.pdf; ComponentLink3Description: Packaging Specification; ComponentLink3URL: http://sg.renesas.com/media/products/common_info/package/pdf/ic/code/plqp0100kb_a.pdf
footprint PLQP0100KB-A_N (Shrink QFP, 100-Leads, Body 14x14mm, Pitch 0.5mm, IPC Medium Density)
footprint PLQP0100KB-A_L (Shrink QFP, 100-Leads, Body 14x14mm, Pitch 0.5mm, IPC High Density)
footprint PLQP0100KB-A_M (Shrink QFP, 100-Leads, Body 14x14mm, Pitch 0.5mm, IPC Low Density)
part A pins: 1 P9_4/TB4IN/~{CTS}4/~{RTS}4/DA1 (io), 2 P9_3/DA0/TB3IN (io), 3 VDC0, 4 P9_1 (io), 5 VDC1, 6 NSD (io), 7 CNVSS (in), 8 P8_7/XCIN (io), 9 P8_6/XCOUT (io), 10 ~{RESET} (in), 11 XOUT (out), 13 XIN (in), 15 P8_5/~{NMI} (io), 16 P8_4/~{INT}2 (io), 17 P8_3/~{INT}1/CAN0IN/~{CAN0WU}/CAN1IN/~{CAN1WU} (io), 18 P8_2/~{INT}0/CAN0OUT/CAN1OUT (io), 19 P8_1/TA4IN/~{U}/TA3OUT/~{CTS}3/~{RTS}3/IIO1_5/UD0B/UD1B/LIN1OUT (io), 20 P8_0/TA4OUT/U/RxD3/UD0A/UD1A/LIN1IN (io), 21 P7_7/TA3IN/CLK3/IIO1_4/UD0B/UD1B/CAN0IN/~{CAN0WU} (io), 22 P7_6/TA3OUT/TxD3/IIO1_3/UD0A/UD1A/CAN0OUT (io), 23 P7_5/TA2IN/~{W}/IIO1_2/LIN0IN (io), 24 P7_4/TA2OUT/W/IIO1_1/LIN0OUT (io), 25 P7_3/TA1IN/~{V}/~{CTS}2/~{RTS}2/~{SS}2/~{SCS}2/IIO1_0 (io), 26 P7_2/TA1OUT/V/CLK2/SSCK2 (io), 27 P7_1/TB5IN/TA0IN/RxD2/SCL2/STxD2/SSI2/IIO1_7 (io), 28 P7_0/TA0OUT/TxD2/SDA2/SRxD2/SSO2/IIO1_6 (io), 29 P6_7/TxD1/SDA1/SRxD1/SSO1 (io), 30 P6_6/RxD1/SCL1/STxD1/SSI1 (io), 31 P6_5/CLK1/SSCK1 (io), 32 P6_4/~{CTS}1/~{RTS}1/~{SS}1/~{SCS}1 (io), 33 P6_3/TB5IN/TxD0/SDA0/SRxD0/SSO0 (io), 34 P6_2/TB2IN/RxD0/SCL0/STxD0/SSI0 (io), 35 P6_1/TB1IN/CLK0/SSCK0 (io), 36 P6_0/TB0IN/~{CTS}0/~{RTS}0/~{SS}0 (io), 37 P5_7/~{SCS}2/IIO0_7 (io), 38 P5_6/SSI2/IIO0_6 (io), 39 P5_5/SSCK2/IIO0_5 (io), 40 P5_4/SSO2/IIO0_4 (io), 41 P5_3/CLKOUT/IIO0_3 (io), 42 P5_2/IIO0_2 (io), 43 P5_1/IIO0_1 (io), 44 P5_0/IIO0_0 (io), 45 P4_7/~{SCS}1/IIO1_7/LIN1IN (io), 46 P4_6/SSI1/IIO1_6/LIN1OUT (io), 47 P4_5/SSCK1/IIO1_5/LIN0IN (io), 48 P4_4/SSO1/IIO1_4/LIN0OUT (io), 49 P4_3/TxD3/IIO1_3 (io), 50 P4_2/RxD3/IIO1_2 (io), 51 P4_1/CLK3/IIO1_1 (io), 52 P4_0/~{CTS}3/~{RTS}3/IIO1_0 (io), 53 P3_7/TA4IN/~{U}/TB1IN/~{CTS}4/~{RTS}4 (io), 54 P3_6/TA4OUT/U/TxD4 (io), 55 P3_5/TA2IN/~{W}/RxD4 (io), 56 P3_4/TA2OUT/W/CLK4 (io), 57 P3_3/TA1IN/~{V}/LIN1IN (io), 58 P3_2/TA1OUT/V/LIN1OUT (io), 59 P3_1/TA3OUT/UD0B/UD1B/LIN0IN (io), 61 P3_0/TA0OUT/UD0A/UD1A/LIN0OUT (io), 63 P2_7/AN2_7 (io), 64 P2_6/AN2_6 (io), 65 P2_5/AN2_5 (io), 66 P2_4/AN2_4 (io), 67 P2_3/AN2_3 (io), 68 P2_2/AN2_2 (io), 69 P2_1/AN2_1 (io), 70 P2_0/AN2_0 (io), 71 P1_7/~{INT}5/IIO0_7/IIO1_7 (io), 72 P1_6/~{INT}4/IIO0_6/IIO1_6 (io), 73 P1_5/~{INT}3/IIO0_5/IIO1_5 (io), 74 P1_4/TB0IN/IIO0_4/IIO1_4 (io), 75 P1_3/~{SCS}0/IIO0_3/IIO1_3 (io), 76 P1_2/SSI0/IIO0_2/IIO1_2 (io), 77 P1_1/SSCK0/IIO0_1/IIO1_1 (io), 78 P1_0/SSO0/IIO0_0/IIO1_0 (io), 79 P0_7/AN0_7 (io), 80 P0_6/AN0_6 (io), 81 P0_5/AN0_5 (io), 82 P0_4/AN0_4 (io), 83 P0_3/AN0_3 (io), 84 P0_2/AN0_2 (io), 85 P0_1/AN0_1 (io), 86 P0_0/AN0_0 (io), 87 P10_7/~{KI}3/AN_7 (io), 88 P10_6/~{KI}2/AN_6 (io), 89 P10_5/~{KI}1/AN_5 (io), 90 P10_4/~{KI}0/AN_4 (io), 91 P10_3/AN_3 (io), 92 P10_2/AN_2 (io), 93 P10_1/AN_1 (io), 95 P10_0/AN_0 (io), 96 VREF (in), 98 P9_7/TB2IN/RxD4/~{ADTRG} (io), 99 P9_6/TxD4/CAN1OUT/ANEX1 (io), 100 P9_5/CLK4/CAN1IN/~{CAN1WU}/ANEX0 (io)
part B pins: 12 VSS (power), 14 VCC (power), 60 VCC (power), 62 VSS (power), 94 AVSS (power), 97 AVCC / VCC (power)